# Altium schematic symbol library MCU_ST_STM32H7.SchLib: 225 symbols (part 1 of 9)
Pins are listed as number, name and electrical type; pins without a type are passive.

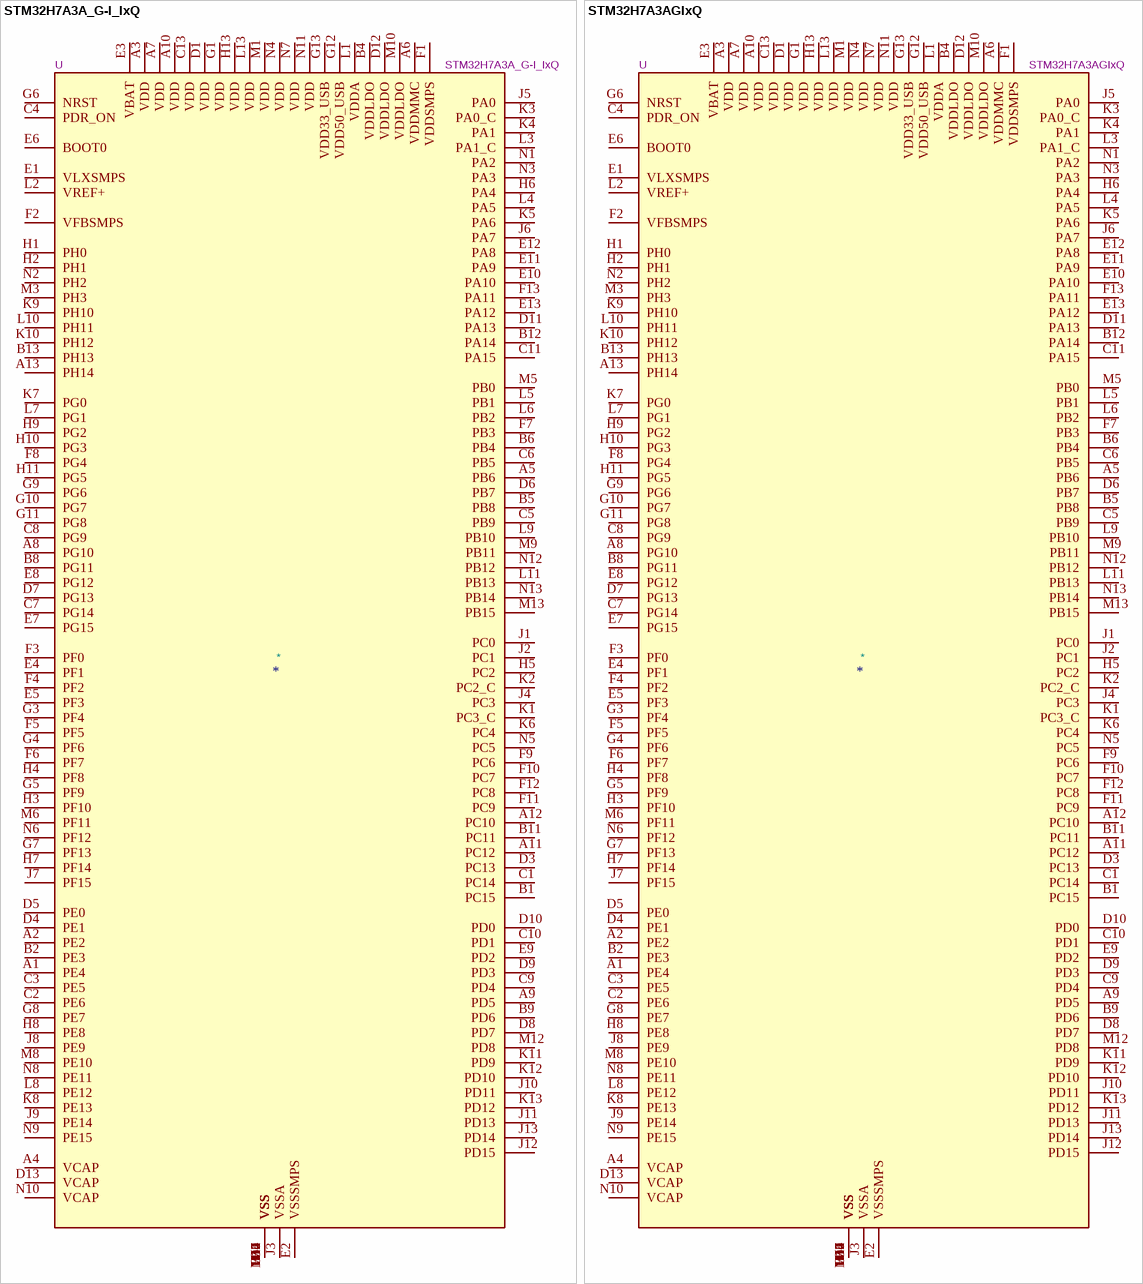
[diagram p0: symbols STM32H7A3A_G-I_IxQ to STM32H7A3AGIxQ]

## STM32H7A3A_G-I_IxQ
designator *  value STM32H7A3A_G-I_IxQ  Reference: U
STMicroelectronics Arm Cortex-M7 MCU, 1024-2048KB flash, 1184KB RAM, 280 MHz, 1.62-3.6V, 125 GPIO, UFBGA169; ki_keywords: Arm Cortex-M7 STM32H7 STM32H7A3/7B3; ki_fp_filters: UFBGA*7x7mm*Layout13x13*P0.5mm*; Footprint: Package_BGA:UFBGA-169_7x7mm_Layout13x13_P0.5mm; Datasheet: https://www.st.com/resource/en/datasheet/stm32h7a3ag.pdf; Description_: STMicroelectronics Arm Cortex-M7 MCU, 1024-2048KB flash, 1184KB RAM, 280 MHz, 1.62-3.6V, 125 GPIO, UFBGA169
pins: A1 PE4, A2 PE2, A3 VDD, A4 VCAP, A5 PB6, A6 VDDMMC, A7 VDD, A8 PG10, A9 PD5, A10 VDD, A11 PC12, A12 PC10, A13 PH14, B1 PC15, B2 PE3, B3 VSS, B4 VDDLDO, B5 PB8, B6 PB4, B7 VSS, B8 PG11, B9 PD6, B10 VSS, B11 PC11, B12 PA14, B13 PH13, C1 PC14, C2 PE6, C3 PE5, C4 PDR_ON, C5 PB9, C6 PB5, C7 PG14, C8 PG9, C9 PD4, C10 PD1, C11 PA15, C12 VSS, C13 VDD, D1 VDD, D2 VSS, D3 PC13, D4 PE1, D5 PE0, D6 PB7, D7 PG13, D8 PD7, D9 PD3, D10 PD0, D11 PA13, D12 VDDLDO, D13 VCAP, E1 VLXSMPS, E2 VSSSMPS, E3 VBAT, E4 PF1, E5 PF3, E6 BOOT0, E7 PG15, E8 PG12, E9 PD2, E10 PA10, E11 PA9, E12 PA8, E13 PA12, F1 VDDSMPS, F2 VFBSMPS, F3 PF0, F4 PF2, F5 PF5, F6 PF7, F7 PB3, F8 PG4, F9 PC6, F10 PC7, F11 PC9, F12 PC8, F13 PA11, G1 VDD, G2 VSS, G3 PF4, G4 PF6, G5 PF9, G6 NRST, G7 PF13, G8 PE7, G9 PG6, G10 PG7, G11 PG8, G12 VDD50_USB, G13 VDD33_USB, H1 PH0, H2 PH1, H3 PF10, H4 PF8, H5 PC2, H6 PA4, H7 PF14, H8 PE8, H9 PG2, H10 PG3, H11 PG5, H12 VSS, H13 VDD, J1 PC0, J2 PC1, J3 VSSA, J4 PC3, J5 PA0, J6 PA7, J7 PF15, J8 PE9, J9 PE14, J10 PD11, J11 PD13, J12 PD15, J13 PD14, K1 PC3_C, K2 PC2_C, K3 PA0_C, K4 PA1, K5 PA6, K6 PC4, K7 PG0, K8 PE13, K9 PH10, K10 PH12, K11 PD9, K12 PD10, K13 PD12, L1 VDDA, L2 VREF+, L3 PA1_C, L4 PA5, L5 PB1, L6 PB2, L7 PG1, L8 PE12, L9 PB10, L10 PH11, L11 PB13, L12 VSS, L13 VDD, M1 VDD, M2 VSS, M3 PH3, M4 VSS, M5 PB0, M6 PF11, M7 VSS, M8 PE10, M9 PB11, M10 VDDLDO, M11 VSS, M12 PD8, M13 PB15, N1 PA2, N2 PH2, N3 PA3, N4 VDD, N5 PC5, N6 PF12, N7 VDD, N8 PE11, N9 PE15, N10 VCAP, N11 VDD, N12 PB12, N13 PB14

## STM32H7A3AGIxQ
designator *  value STM32H7A3AGIxQ  Reference: U
STMicroelectronics Arm Cortex-M7 MCU, 1024KB flash, 1184KB RAM, 280 MHz, 1.62-3.6V, 125 GPIO, UFBGA169; ki_keywords: Arm Cortex-M7 STM32H7 STM32H7A3/7B3; ki_fp_filters: UFBGA*7x7mm*Layout13x13*P0.5mm*; Footprint: Package_BGA:UFBGA-169_7x7mm_Layout13x13_P0.5mm; Datasheet: https://www.st.com/resource/en/datasheet/stm32h7a3ag.pdf; Description_: STMicroelectronics Arm Cortex-M7 MCU, 1024KB flash, 1184KB RAM, 280 MHz, 1.62-3.6V, 125 GPIO, UFBGA169
pins: A1 PE4, A2 PE2, A3 VDD, A4 VCAP, A5 PB6, A6 VDDMMC, A7 VDD, A8 PG10, A9 PD5, A10 VDD, A11 PC12, A12 PC10, A13 PH14, B1 PC15, B2 PE3, B3 VSS, B4 VDDLDO, B5 PB8, B6 PB4, B7 VSS, B8 PG11, B9 PD6, B10 VSS, B11 PC11, B12 PA14, B13 PH13, C1 PC14, C2 PE6, C3 PE5, C4 PDR_ON, C5 PB9, C6 PB5, C7 PG14, C8 PG9, C9 PD4, C10 PD1, C11 PA15, C12 VSS, C13 VDD, D1 VDD, D2 VSS, D3 PC13, D4 PE1, D5 PE0, D6 PB7, D7 PG13, D8 PD7, D9 PD3, D10 PD0, D11 PA13, D12 VDDLDO, D13 VCAP, E1 VLXSMPS, E2 VSSSMPS, E3 VBAT, E4 PF1, E5 PF3, E6 BOOT0, E7 PG15, E8 PG12, E9 PD2, E10 PA10, E11 PA9, E12 PA8, E13 PA12, F1 VDDSMPS, F2 VFBSMPS, F3 PF0, F4 PF2, F5 PF5, F6 PF7, F7 PB3, F8 PG4, F9 PC6, F10 PC7, F11 PC9, F12 PC8, F13 PA11, G1 VDD, G2 VSS, G3 PF4, G4 PF6, G5 PF9, G6 NRST, G7 PF13, G8 PE7, G9 PG6, G10 PG7, G11 PG8, G12 VDD50_USB, G13 VDD33_USB, H1 PH0, H2 PH1, H3 PF10, H4 PF8, H5 PC2, H6 PA4, H7 PF14, H8 PE8, H9 PG2, H10 PG3, H11 PG5, H12 VSS, H13 VDD, J1 PC0, J2 PC1, J3 VSSA, J4 PC3, J5 PA0, J6 PA7, J7 PF15, J8 PE9, J9 PE14, J10 PD11, J11 PD13, J12 PD15, J13 PD14, K1 PC3_C, K2 PC2_C, K3 PA0_C, K4 PA1, K5 PA6, K6 PC4, K7 PG0, K8 PE13, K9 PH10, K10 PH12, K11 PD9, K12 PD10, K13 PD12, L1 VDDA, L2 VREF+, L3 PA1_C, L4 PA5, L5 PB1, L6 PB2, L7 PG1, L8 PE12, L9 PB10, L10 PH11, L11 PB13, L12 VSS, L13 VDD, M1 VDD, M2 VSS, M3 PH3, M4 VSS, M5 PB0, M6 PF11, M7 VSS, M8 PE10, M9 PB11, M10 VDDLDO, M11 VSS, M12 PD8, M13 PB15, N1 PA2, N2 PH2, N3 PA3, N4 VDD, N5 PC5, N6 PF12, N7 VDD, N8 PE11, N9 PE15, N10 VCAP, N11 VDD, N12 PB12, N13 PB14

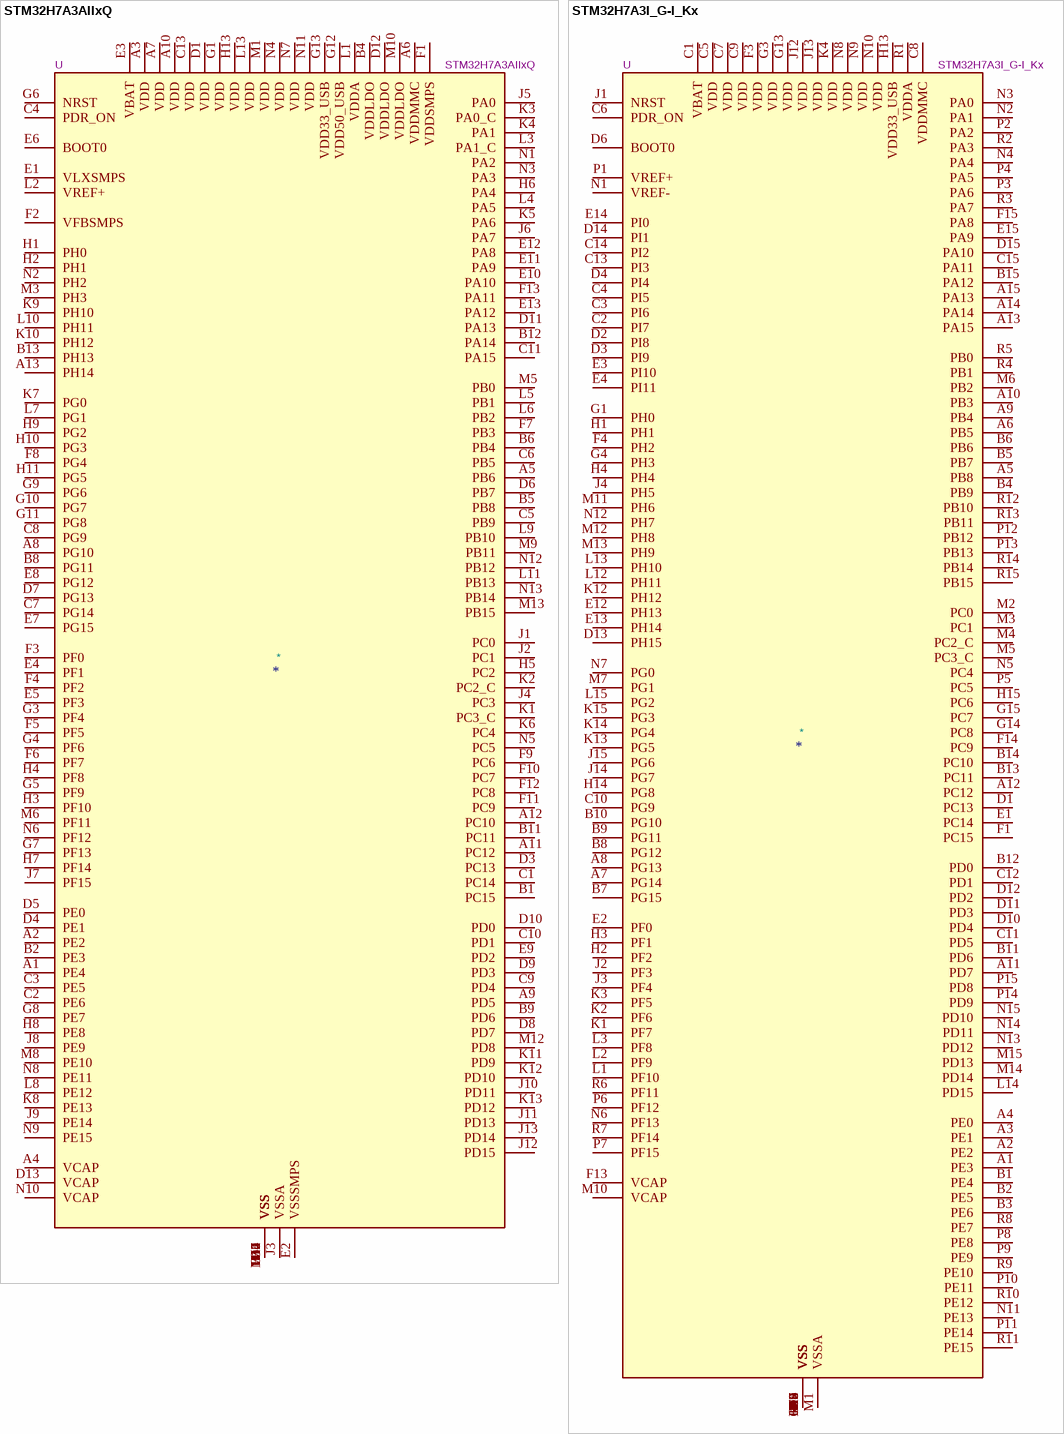
[diagram p1: symbols STM32H7A3AIIxQ to STM32H7A3I_G-I_Kx]

## STM32H7A3AIIxQ
designator *  value STM32H7A3AIIxQ  Reference: U
STMicroelectronics Arm Cortex-M7 MCU, 2048KB flash, 1184KB RAM, 280 MHz, 1.62-3.6V, 125 GPIO, UFBGA169; ki_keywords: Arm Cortex-M7 STM32H7 STM32H7A3/7B3; ki_fp_filters: UFBGA*7x7mm*Layout13x13*P0.5mm*; Footprint: Package_BGA:UFBGA-169_7x7mm_Layout13x13_P0.5mm; Datasheet: https://www.st.com/resource/en/datasheet/stm32h7a3ai.pdf; Description_: STMicroelectronics Arm Cortex-M7 MCU, 2048KB flash, 1184KB RAM, 280 MHz, 1.62-3.6V, 125 GPIO, UFBGA169
pins: A1 PE4, A2 PE2, A3 VDD, A4 VCAP, A5 PB6, A6 VDDMMC, A7 VDD, A8 PG10, A9 PD5, A10 VDD, A11 PC12, A12 PC10, A13 PH14, B1 PC15, B2 PE3, B3 VSS, B4 VDDLDO, B5 PB8, B6 PB4, B7 VSS, B8 PG11, B9 PD6, B10 VSS, B11 PC11, B12 PA14, B13 PH13, C1 PC14, C2 PE6, C3 PE5, C4 PDR_ON, C5 PB9, C6 PB5, C7 PG14, C8 PG9, C9 PD4, C10 PD1, C11 PA15, C12 VSS, C13 VDD, D1 VDD, D2 VSS, D3 PC13, D4 PE1, D5 PE0, D6 PB7, D7 PG13, D8 PD7, D9 PD3, D10 PD0, D11 PA13, D12 VDDLDO, D13 VCAP, E1 VLXSMPS, E2 VSSSMPS, E3 VBAT, E4 PF1, E5 PF3, E6 BOOT0, E7 PG15, E8 PG12, E9 PD2, E10 PA10, E11 PA9, E12 PA8, E13 PA12, F1 VDDSMPS, F2 VFBSMPS, F3 PF0, F4 PF2, F5 PF5, F6 PF7, F7 PB3, F8 PG4, F9 PC6, F10 PC7, F11 PC9, F12 PC8, F13 PA11, G1 VDD, G2 VSS, G3 PF4, G4 PF6, G5 PF9, G6 NRST, G7 PF13, G8 PE7, G9 PG6, G10 PG7, G11 PG8, G12 VDD50_USB, G13 VDD33_USB, H1 PH0, H2 PH1, H3 PF10, H4 PF8, H5 PC2, H6 PA4, H7 PF14, H8 PE8, H9 PG2, H10 PG3, H11 PG5, H12 VSS, H13 VDD, J1 PC0, J2 PC1, J3 VSSA, J4 PC3, J5 PA0, J6 PA7, J7 PF15, J8 PE9, J9 PE14, J10 PD11, J11 PD13, J12 PD15, J13 PD14, K1 PC3_C, K2 PC2_C, K3 PA0_C, K4 PA1, K5 PA6, K6 PC4, K7 PG0, K8 PE13, K9 PH10, K10 PH12, K11 PD9, K12 PD10, K13 PD12, L1 VDDA, L2 VREF+, L3 PA1_C, L4 PA5, L5 PB1, L6 PB2, L7 PG1, L8 PE12, L9 PB10, L10 PH11, L11 PB13, L12 VSS, L13 VDD, M1 VDD, M2 VSS, M3 PH3, M4 VSS, M5 PB0, M6 PF11, M7 VSS, M8 PE10, M9 PB11, M10 VDDLDO, M11 VSS, M12 PD8, M13 PB15, N1 PA2, N2 PH2, N3 PA3, N4 VDD, N5 PC5, N6 PF12, N7 VDD, N8 PE11, N9 PE15, N10 VCAP, N11 VDD, N12 PB12, N13 PB14

## STM32H7A3I_G-I_Kx
designator *  value STM32H7A3I_G-I_Kx  Reference: U
STMicroelectronics Arm Cortex-M7 MCU, 1024-2048KB flash, 1184KB RAM, 280 MHz, 1.62-3.6V, 140 GPIO, UFBGA176; ki_keywords: Arm Cortex-M7 STM32H7 STM32H7A3/7B3; ki_fp_filters: UFBGA*10x10mm*Layout15x15*P0.65mm*; Footprint: Package_BGA:UFBGA-201_10x10mm_Layout15x15_P0.65mm; Datasheet: https://www.st.com/resource/en/datasheet/stm32h7a3ig.pdf; Description_: STMicroelectronics Arm Cortex-M7 MCU, 1024-2048KB flash, 1184KB RAM, 280 MHz, 1.62-3.6V, 140 GPIO, UFBGA176
pins: A1 PE3, A2 PE2, A3 PE1, A4 PE0, A5 PB8, A6 PB5, A7 PG14, A8 PG13, A9 PB4, A10 PB3, A11 PD7, A12 PC12, A13 PA15, A14 PA14, A15 PA13, B1 PE4, B2 PE5, B3 PE6, B4 PB9, B5 PB7, B6 PB6, B7 PG15, B8 PG12, B9 PG11, B10 PG10, B11 PD6, B12 PD0, B13 PC11, B14 PC10, B15 PA12, C1 VBAT, C2 PI7, C3 PI6, C4 PI5, C5 VDD, C6 PDR_ON, C7 VDD, C8 VDDMMC, C9 VDD, C10 PG9, C11 PD5, C12 PD1, C13 PI3, C14 PI2, C15 PA11, D1 PC13, D2 PI8, D3 PI9, D4 PI4, D5 VSS, D6 BOOT0, D7 VSS, D8 VSS, D9 VSS, D10 PD4, D11 PD3, D12 PD2, D13 PH15, D14 PI1, D15 PA10, E1 PC14, E2 PF0, E3 PI10, E4 PI11, E12 PH13, E13 PH14, E14 PI0, E15 PA9, F1 PC15, F2 VSS, F3 VDD, F4 PH2, F6 VSS, F7 VSS, F8 VSS, F9 VSS, F10 VSS, F12 VSS, F13 VCAP, F14 PC9, F15 PA8, G1 PH0, G2 VSS, G3 VDD, G4 PH3, G6 VSS, G7 VSS, G8 VSS, G9 VSS, G10 VSS, G12 VSS, G13 VDD, G14 PC8, G15 PC7, H1 PH1, H2 PF2, H3 PF1, H4 PH4, H6 VSS, H7 VSS, H8 VSS, H9 VSS, H10 VSS, H12 VSS, H13 VDD33_USB, H14 PG8, H15 PC6, J1 NRST, J2 PF3, J3 PF4, J4 PH5, J6 VSS, J7 VSS, J8 VSS, J9 VSS, J10 VSS, J12 VDD, J13 VDD, J14 PG7, J15 PG6, K1 PF7, K2 PF6, K3 PF5, K4 VDD, K6 VSS, K7 VSS, K8 VSS, K9 VSS, K10 VSS, K12 PH12, K13 PG5, K14 PG4, K15 PG3, L1 PF10, L2 PF9, L3 PF8, L4 VSS, L12 PH11, L13 PH10, L14 PD15, L15 PG2, M1 VSSA, M2 PC0, M3 PC1, M4 PC2_C, M5 PC3_C, M6 PB2, M7 PG1, M8 VSS, M9 VSS, M10 VCAP, M11 PH6, M12 PH8, M13 PH9, M14 PD14, M15 PD13, N1 VREF-, N2 PA1, N3 PA0, N4 PA4, N5 PC4, N6 PF13, N7 PG0, N8 VDD, N9 VDD, N10 VDD, N11 PE13, N12 PH7, N13 PD12, N14 PD11, N15 PD10, P1 VREF+, P2 PA2, P3 PA6, P4 PA5, P5 PC5, P6 PF12, P7 PF15, P8 PE8, P9 PE9, P10 PE11, P11 PE14, P12 PB12, P13 PB13, P14 PD9, P15 PD8, R1 VDDA, R2 PA3, R3 PA7, R4 PB1, R5 PB0, R6 PF11, R7 PF14, R8 PE7, R9 PE10, R10 PE12, R11 PE15, R12 PB10, R13 PB11, R14 PB14, R15 PB15

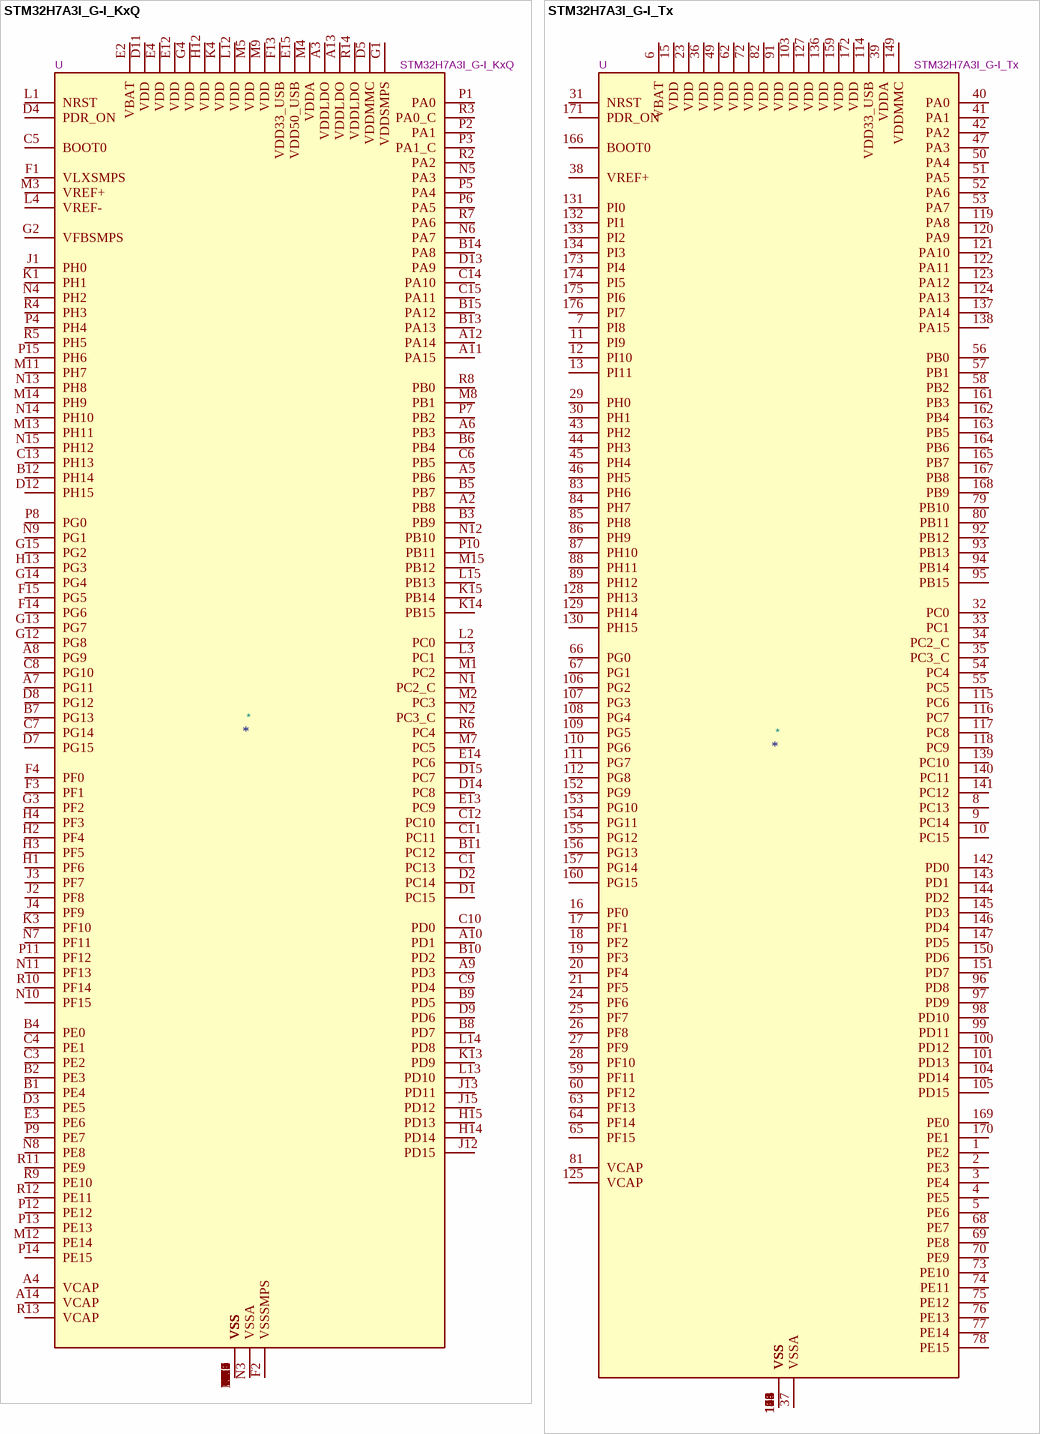
[diagram p2: symbols STM32H7A3I_G-I_KxQ to STM32H7A3I_G-I_Tx]

## STM32H7A3I_G-I_KxQ
designator *  value STM32H7A3I_G-I_KxQ  Reference: U
STMicroelectronics Arm Cortex-M7 MCU, 1024-2048KB flash, 1184KB RAM, 280 MHz, 1.62-3.6V, 132 GPIO, UFBGA176; ki_keywords: Arm Cortex-M7 STM32H7 STM32H7A3/7B3; ki_fp_filters: UFBGA*10x10mm*Layout15x15*P0.65mm*; Footprint: Package_BGA:UFBGA-201_10x10mm_Layout15x15_P0.65mm; Datasheet: https://www.st.com/resource/en/datasheet/stm32h7a3ig.pdf; Description_: STMicroelectronics Arm Cortex-M7 MCU, 1024-2048KB flash, 1184KB RAM, 280 MHz, 1.62-3.6V, 132 GPIO, UFBGA176
pins: A1 VSS, A2 PB8, A3 VDDLDO, A4 VCAP, A5 PB6, A6 PB3, A7 PG11, A8 PG9, A9 PD3, A10 PD1, A11 PA15, A12 PA14, A13 VDDLDO, A14 VCAP, A15 VSS, B1 PE4, B2 PE3, B3 PB9, B4 PE0, B5 PB7, B6 PB4, B7 PG13, B8 PD7, B9 PD5, B10 PD2, B11 PC12, B12 PH14, B13 PA13, B14 PA8, B15 PA12, C1 PC13, C2 VSS, C3 PE2, C4 PE1, C5 BOOT0, C6 PB5, C7 PG14, C8 PG10, C9 PD4, C10 PD0, C11 PC11, C12 PC10, C13 PH13, C14 PA10, C15 PA11, D1 PC15, D2 PC14, D3 PE5, D4 PDR_ON, D5 VDDMMC, D6 VSS, D7 PG15, D8 PG12, D9 PD6, D10 VSS, D11 VDD, D12 PH15, D13 PA9, D14 PC8, D15 PC7, E1 VSS, E2 VBAT, E3 PE6, E4 VDD, E12 VDD, E13 PC9, E14 PC6, E15 VDD50_USB, F1 VLXSMPS, F2 VSSSMPS, F3 PF1, F4 PF0, F6 VSS, F7 VSS, F8 VSS, F9 VSS, F10 VSS, F12 VSS, F13 VDD33_USB, F14 PG6, F15 PG5, G1 VDDSMPS, G2 VFBSMPS, G3 PF2, G4 VDD, G6 VSS, G7 VSS, G8 VSS, G9 VSS, G10 VSS, G12 PG8, G13 PG7, G14 PG4, G15 PG2, H1 PF6, H2 PF4, H3 PF5, H4 PF3, H6 VSS, H7 VSS, H8 VSS, H9 VSS, H10 VSS, H12 VDD, H13 PG3, H14 PD14, H15 PD13, J1 PH0, J2 PF8, J3 PF7, J4 PF9, J6 VSS, J7 VSS, J8 VSS, J9 VSS, J10 VSS, J12 PD15, J13 PD11, J14 VSS, J15 PD12, K1 PH1, K2 VSS, K3 PF10, K4 VDD, K6 VSS, K7 VSS, K8 VSS, K9 VSS, K10 VSS, K12 VSS, K13 PD9, K14 PB15, K15 PB14, L1 NRST, L2 PC0, L3 PC1, L4 VREF-, L12 VDD, L13 PD10, L14 PD8, L15 PB13, M1 PC2, M2 PC3, M3 VREF+, M4 VDDA, M5 VDD, M6 VSS, M7 PC5, M8 PB1, M9 VDD, M10 VSS, M11 PH7, M12 PE14, M13 PH11, M14 PH9, M15 PB12, N1 PC2_C, N2 PC3_C, N3 VSSA, N4 PH2, N5 PA3, N6 PA7, N7 PF11, N8 PE8, N9 PG1, N10 PF15, N11 PF13, N12 PB10, N13 PH8, N14 PH10, N15 PH12, P1 PA0, P2 PA1, P3 PA1_C, P4 PH4, P5 PA4, P6 PA5, P7 PB2, P8 PG0, P9 PE7, P10 PB11, P11 PF12, P12 PE12, P13 PE13, P14 PE15, P15 PH6, R1 VSS, R2 PA2, R3 PA0_C, R4 PH3, R5 PH5, R6 PC4, R7 PA6, R8 PB0, R9 PE10, R10 PF14, R11 PE9, R12 PE11, R13 VCAP, R14 VDDLDO, R15 VSS

## STM32H7A3I_G-I_Tx
designator *  value STM32H7A3I_G-I_Tx  Reference: U
STMicroelectronics Arm Cortex-M7 MCU, 1024-2048KB flash, 1184KB RAM, 280 MHz, 1.62-3.6V, 140 GPIO, LQFP176; ki_keywords: Arm Cortex-M7 STM32H7 STM32H7A3/7B3; ki_fp_filters: LQFP*24x24mm*P0.5mm*; Footprint: Package_QFP:LQFP-176_24x24mm_P0.5mm; Datasheet: https://www.st.com/resource/en/datasheet/stm32h7a3ig.pdf; Description_: STMicroelectronics Arm Cortex-M7 MCU, 1024-2048KB flash, 1184KB RAM, 280 MHz, 1.62-3.6V, 140 GPIO, LQFP176
pins: 1 PE2, 2 PE3, 3 PE4, 4 PE5, 5 PE6, 6 VBAT, 7 PI8, 8 PC13, 9 PC14, 10 PC15, 11 PI9, 12 PI10, 13 PI11, 14 VSS, 15 VDD, 16 PF0, 17 PF1, 18 PF2, 19 PF3, 20 PF4, 21 PF5, 22 VSS, 23 VDD, 24 PF6, 25 PF7, 26 PF8, 27 PF9, 28 PF10, 29 PH0, 30 PH1, 31 NRST, 32 PC0, 33 PC1, 34 PC2_C, 35 PC3_C, 36 VDD, 37 VSSA, 38 VREF+, 39 VDDA, 40 PA0, 41 PA1, 42 PA2, 43 PH2, 44 PH3, 45 PH4, 46 PH5, 47 PA3, 48 VSS, 49 VDD, 50 PA4, 51 PA5, 52 PA6, 53 PA7, 54 PC4, 55 PC5, 56 PB0, 57 PB1, 58 PB2, 59 PF11, 60 PF12, 61 VSS, 62 VDD, 63 PF13, 64 PF14, 65 PF15, 66 PG0, 67 PG1, 68 PE7, 69 PE8, 70 PE9, 71 VSS, 72 VDD, 73 PE10, 74 PE11, 75 PE12, 76 PE13, 77 PE14, 78 PE15, 79 PB10, 80 PB11, 81 VCAP, 82 VDD, 83 PH6, 84 PH7, 85 PH8, 86 PH9, 87 PH10, 88 PH11, 89 PH12, 90 VSS, 91 VDD, 92 PB12, 93 PB13, 94 PB14, 95 PB15, 96 PD8, 97 PD9, 98 PD10, 99 PD11, 100 PD12, 101 PD13, 102 VSS, 103 VDD, 104 PD14, 105 PD15, 106 PG2, 107 PG3, 108 PG4, 109 PG5, 110 PG6, 111 PG7, 112 PG8, 113 VSS, 114 VDD33_USB, 115 PC6, 116 PC7, 117 PC8, 118 PC9, 119 PA8, 120 PA9, 121 PA10, 122 PA11, 123 PA12, 124 PA13, 125 VCAP, 126 VSS, 127 VDD, 128 PH13, 129 PH14, 130 PH15, 131 PI0, 132 PI1, 133 PI2, 134 PI3, 135 VSS, 136 VDD, 137 PA14, 138 PA15, 139 PC10, 140 PC11, 141 PC12, 142 PD0, 143 PD1, 144 PD2, 145 PD3, 146 PD4, 147 PD5, 148 VSS, 149 VDDMMC, 150 PD6, 151 PD7, 152 PG9, 153 PG10, 154 PG11, 155 PG12, 156 PG13, 157 PG14, 158 VSS, 159 VDD, 160 PG15, 161 PB3, 162 PB4, 163 PB5, 164 PB6, 165 PB7, 166 BOOT0, 167 PB8, 168 PB9, 169 PE0, 170 PE1, 171 PDR_ON, 172 VDD, 173 PI4, 174 PI5, 175 PI6, 176 PI7

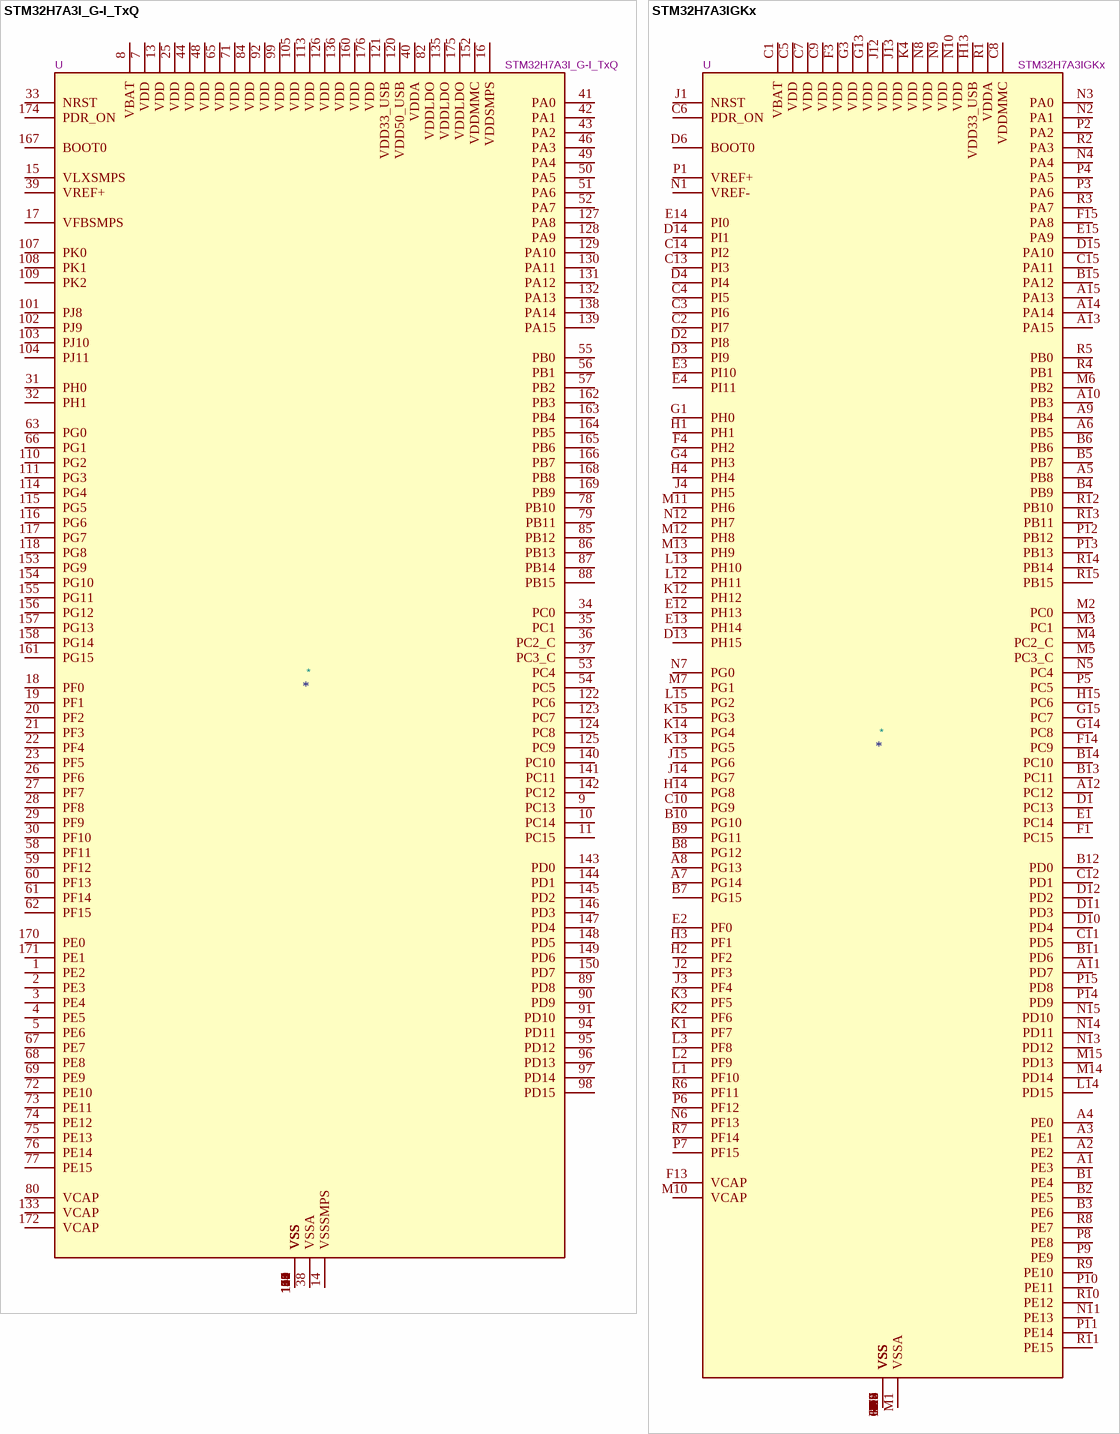
[diagram p3: symbols STM32H7A3I_G-I_TxQ to STM32H7A3IGKx]

## STM32H7A3I_G-I_TxQ
designator *  value STM32H7A3I_G-I_TxQ  Reference: U
STMicroelectronics Arm Cortex-M7 MCU, 1024-2048KB flash, 1184KB RAM, 280 MHz, 1.62-3.6V, 121 GPIO, LQFP176; ki_keywords: Arm Cortex-M7 STM32H7 STM32H7A3/7B3; ki_fp_filters: LQFP*24x24mm*P0.5mm*; Footprint: Package_QFP:LQFP-176_24x24mm_P0.5mm; Datasheet: https://www.st.com/resource/en/datasheet/stm32h7a3ig.pdf; Description_: STMicroelectronics Arm Cortex-M7 MCU, 1024-2048KB flash, 1184KB RAM, 280 MHz, 1.62-3.6V, 121 GPIO, LQFP176
pins: 1 PE2, 2 PE3, 3 PE4, 4 PE5, 5 PE6, 6 VSS, 7 VDD, 8 VBAT, 9 PC13, 10 PC14, 11 PC15, 12 VSS, 13 VDD, 14 VSSSMPS, 15 VLXSMPS, 16 VDDSMPS, 17 VFBSMPS, 18 PF0, 19 PF1, 20 PF2, 21 PF3, 22 PF4, 23 PF5, 24 VSS, 25 VDD, 26 PF6, 27 PF7, 28 PF8, 29 PF9, 30 PF10, 31 PH0, 32 PH1, 33 NRST, 34 PC0, 35 PC1, 36 PC2_C, 37 PC3_C, 38 VSSA, 39 VREF+, 40 VDDA, 41 PA0, 42 PA1, 43 PA2, 44 VDD, 45 VSS, 46 PA3, 47 VSS, 48 VDD, 49 PA4, 50 PA5, 51 PA6, 52 PA7, 53 PC4, 54 PC5, 55 PB0, 56 PB1, 57 PB2, 58 PF11, 59 PF12, 60 PF13, 61 PF14, 62 PF15, 63 PG0, 64 VSS, 65 VDD, 66 PG1, 67 PE7, 68 PE8, 69 PE9, 70 VSS, 71 VDD, 72 PE10, 73 PE11, 74 PE12, 75 PE13, 76 PE14, 77 PE15, 78 PB10, 79 PB11, 80 VCAP, 81 VSS, 82 VDDLDO, 83 VSS, 84 VDD, 85 PB12, 86 PB13, 87 PB14, 88 PB15, 89 PD8, 90 PD9, 91 PD10, 92 VDD, 93 VSS, 94 PD11, 95 PD12, 96 PD13, 97 PD14, 98 PD15, 99 VDD, 100 VSS, 101 PJ8, 102 PJ9, 103 PJ10, 104 PJ11, 105 VDD, 106 VSS, 107 PK0, 108 PK1, 109 PK2, 110 PG2, 111 PG3, 112 VSS, 113 VDD, 114 PG4, 115 PG5, 116 PG6, 117 PG7, 118 PG8, 119 VSS, 120 VDD50_USB, 121 VDD33_USB, 122 PC6, 123 PC7, 124 PC8, 125 PC9, 126 VDD, 127 PA8, 128 PA9, 129 PA10, 130 PA11, 131 PA12, 132 PA13, 133 VCAP, 134 VSS, 135 VDDLDO, 136 VDD, 137 VSS, 138 PA14, 139 PA15, 140 PC10, 141 PC11, 142 PC12, 143 PD0, 144 PD1, 145 PD2, 146 PD3, 147 PD4, 148 PD5, 149 PD6, 150 PD7, 151 VSS, 152 VDDMMC, 153 PG9, 154 PG10, 155 PG11, 156 PG12, 157 PG13, 158 PG14, 159 VSS, 160 VDD, 161 PG15, 162 PB3, 163 PB4, 164 PB5, 165 PB6, 166 PB7, 167 BOOT0, 168 PB8, 169 PB9, 170 PE0, 171 PE1, 172 VCAP, 173 VSS, 174 PDR_ON, 175 VDDLDO, 176 VDD

## STM32H7A3IGKx
designator *  value STM32H7A3IGKx  Reference: U
STMicroelectronics Arm Cortex-M7 MCU, 1024KB flash, 1184KB RAM, 280 MHz, 1.62-3.6V, 140 GPIO, UFBGA176; ki_keywords: Arm Cortex-M7 STM32H7 STM32H7A3/7B3; ki_fp_filters: UFBGA*10x10mm*Layout15x15*P0.65mm*; Footprint: Package_BGA:UFBGA-201_10x10mm_Layout15x15_P0.65mm; Datasheet: https://www.st.com/resource/en/datasheet/stm32h7a3ig.pdf; Description_: STMicroelectronics Arm Cortex-M7 MCU, 1024KB flash, 1184KB RAM, 280 MHz, 1.62-3.6V, 140 GPIO, UFBGA176
pins: A1 PE3, A2 PE2, A3 PE1, A4 PE0, A5 PB8, A6 PB5, A7 PG14, A8 PG13, A9 PB4, A10 PB3, A11 PD7, A12 PC12, A13 PA15, A14 PA14, A15 PA13, B1 PE4, B2 PE5, B3 PE6, B4 PB9, B5 PB7, B6 PB6, B7 PG15, B8 PG12, B9 PG11, B10 PG10, B11 PD6, B12 PD0, B13 PC11, B14 PC10, B15 PA12, C1 VBAT, C2 PI7, C3 PI6, C4 PI5, C5 VDD, C6 PDR_ON, C7 VDD, C8 VDDMMC, C9 VDD, C10 PG9, C11 PD5, C12 PD1, C13 PI3, C14 PI2, C15 PA11, D1 PC13, D2 PI8, D3 PI9, D4 PI4, D5 VSS, D6 BOOT0, D7 VSS, D8 VSS, D9 VSS, D10 PD4, D11 PD3, D12 PD2, D13 PH15, D14 PI1, D15 PA10, E1 PC14, E2 PF0, E3 PI10, E4 PI11, E12 PH13, E13 PH14, E14 PI0, E15 PA9, F1 PC15, F2 VSS, F3 VDD, F4 PH2, F6 VSS, F7 VSS, F8 VSS, F9 VSS, F10 VSS, F12 VSS, F13 VCAP, F14 PC9, F15 PA8, G1 PH0, G2 VSS, G3 VDD, G4 PH3, G6 VSS, G7 VSS, G8 VSS, G9 VSS, G10 VSS, G12 VSS, G13 VDD, G14 PC8, G15 PC7, H1 PH1, H2 PF2, H3 PF1, H4 PH4, H6 VSS, H7 VSS, H8 VSS, H9 VSS, H10 VSS, H12 VSS, H13 VDD33_USB, H14 PG8, H15 PC6, J1 NRST, J2 PF3, J3 PF4, J4 PH5, J6 VSS, J7 VSS, J8 VSS, J9 VSS, J10 VSS, J12 VDD, J13 VDD, J14 PG7, J15 PG6, K1 PF7, K2 PF6, K3 PF5, K4 VDD, K6 VSS, K7 VSS, K8 VSS, K9 VSS, K10 VSS, K12 PH12, K13 PG5, K14 PG4, K15 PG3, L1 PF10, L2 PF9, L3 PF8, L4 VSS, L12 PH11, L13 PH10, L14 PD15, L15 PG2, M1 VSSA, M2 PC0, M3 PC1, M4 PC2_C, M5 PC3_C, M6 PB2, M7 PG1, M8 VSS, M9 VSS, M10 VCAP, M11 PH6, M12 PH8, M13 PH9, M14 PD14, M15 PD13, N1 VREF-, N2 PA1, N3 PA0, N4 PA4, N5 PC4, N6 PF13, N7 PG0, N8 VDD, N9 VDD, N10 VDD, N11 PE13, N12 PH7, N13 PD12, N14 PD11, N15 PD10, P1 VREF+, P2 PA2, P3 PA6, P4 PA5, P5 PC5, P6 PF12, P7 PF15, P8 PE8, P9 PE9, P10 PE11, P11 PE14, P12 PB12, P13 PB13, P14 PD9, P15 PD8, R1 VDDA, R2 PA3, R3 PA7, R4 PB1, R5 PB0, R6 PF11, R7 PF14, R8 PE7, R9 PE10, R10 PE12, R11 PE15, R12 PB10, R13 PB11, R14 PB14, R15 PB15

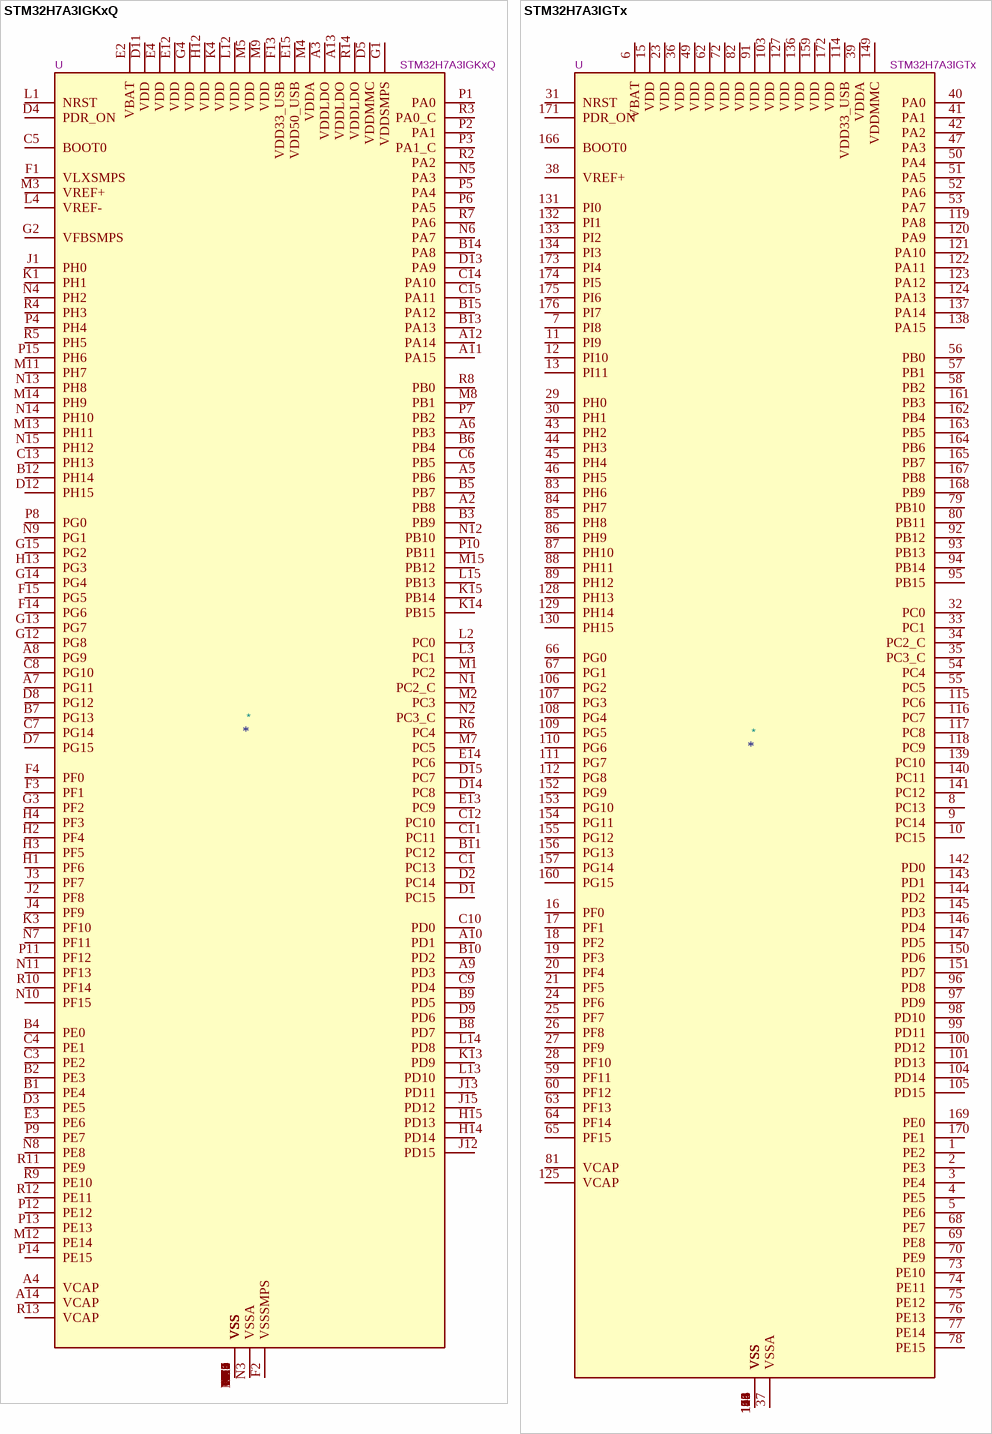
[diagram p4: symbols STM32H7A3IGKxQ to STM32H7A3IGTx]

## STM32H7A3IGKxQ
designator *  value STM32H7A3IGKxQ  Reference: U
STMicroelectronics Arm Cortex-M7 MCU, 1024KB flash, 1184KB RAM, 280 MHz, 1.62-3.6V, 132 GPIO, UFBGA176; ki_keywords: Arm Cortex-M7 STM32H7 STM32H7A3/7B3; ki_fp_filters: UFBGA*10x10mm*Layout15x15*P0.65mm*; Footprint: Package_BGA:UFBGA-201_10x10mm_Layout15x15_P0.65mm; Datasheet: https://www.st.com/resource/en/datasheet/stm32h7a3ig.pdf; Description_: STMicroelectronics Arm Cortex-M7 MCU, 1024KB flash, 1184KB RAM, 280 MHz, 1.62-3.6V, 132 GPIO, UFBGA176
pins: A1 VSS, A2 PB8, A3 VDDLDO, A4 VCAP, A5 PB6, A6 PB3, A7 PG11, A8 PG9, A9 PD3, A10 PD1, A11 PA15, A12 PA14, A13 VDDLDO, A14 VCAP, A15 VSS, B1 PE4, B2 PE3, B3 PB9, B4 PE0, B5 PB7, B6 PB4, B7 PG13, B8 PD7, B9 PD5, B10 PD2, B11 PC12, B12 PH14, B13 PA13, B14 PA8, B15 PA12, C1 PC13, C2 VSS, C3 PE2, C4 PE1, C5 BOOT0, C6 PB5, C7 PG14, C8 PG10, C9 PD4, C10 PD0, C11 PC11, C12 PC10, C13 PH13, C14 PA10, C15 PA11, D1 PC15, D2 PC14, D3 PE5, D4 PDR_ON, D5 VDDMMC, D6 VSS, D7 PG15, D8 PG12, D9 PD6, D10 VSS, D11 VDD, D12 PH15, D13 PA9, D14 PC8, D15 PC7, E1 VSS, E2 VBAT, E3 PE6, E4 VDD, E12 VDD, E13 PC9, E14 PC6, E15 VDD50_USB, F1 VLXSMPS, F2 VSSSMPS, F3 PF1, F4 PF0, F6 VSS, F7 VSS, F8 VSS, F9 VSS, F10 VSS, F12 VSS, F13 VDD33_USB, F14 PG6, F15 PG5, G1 VDDSMPS, G2 VFBSMPS, G3 PF2, G4 VDD, G6 VSS, G7 VSS, G8 VSS, G9 VSS, G10 VSS, G12 PG8, G13 PG7, G14 PG4, G15 PG2, H1 PF6, H2 PF4, H3 PF5, H4 PF3, H6 VSS, H7 VSS, H8 VSS, H9 VSS, H10 VSS, H12 VDD, H13 PG3, H14 PD14, H15 PD13, J1 PH0, J2 PF8, J3 PF7, J4 PF9, J6 VSS, J7 VSS, J8 VSS, J9 VSS, J10 VSS, J12 PD15, J13 PD11, J14 VSS, J15 PD12, K1 PH1, K2 VSS, K3 PF10, K4 VDD, K6 VSS, K7 VSS, K8 VSS, K9 VSS, K10 VSS, K12 VSS, K13 PD9, K14 PB15, K15 PB14, L1 NRST, L2 PC0, L3 PC1, L4 VREF-, L12 VDD, L13 PD10, L14 PD8, L15 PB13, M1 PC2, M2 PC3, M3 VREF+, M4 VDDA, M5 VDD, M6 VSS, M7 PC5, M8 PB1, M9 VDD, M10 VSS, M11 PH7, M12 PE14, M13 PH11, M14 PH9, M15 PB12, N1 PC2_C, N2 PC3_C, N3 VSSA, N4 PH2, N5 PA3, N6 PA7, N7 PF11, N8 PE8, N9 PG1, N10 PF15, N11 PF13, N12 PB10, N13 PH8, N14 PH10, N15 PH12, P1 PA0, P2 PA1, P3 PA1_C, P4 PH4, P5 PA4, P6 PA5, P7 PB2, P8 PG0, P9 PE7, P10 PB11, P11 PF12, P12 PE12, P13 PE13, P14 PE15, P15 PH6, R1 VSS, R2 PA2, R3 PA0_C, R4 PH3, R5 PH5, R6 PC4, R7 PA6, R8 PB0, R9 PE10, R10 PF14, R11 PE9, R12 PE11, R13 VCAP, R14 VDDLDO, R15 VSS

## STM32H7A3IGTx
designator *  value STM32H7A3IGTx  Reference: U
STMicroelectronics Arm Cortex-M7 MCU, 1024KB flash, 1184KB RAM, 280 MHz, 1.62-3.6V, 140 GPIO, LQFP176; ki_keywords: Arm Cortex-M7 STM32H7 STM32H7A3/7B3; ki_fp_filters: LQFP*24x24mm*P0.5mm*; Footprint: Package_QFP:LQFP-176_24x24mm_P0.5mm; Datasheet: https://www.st.com/resource/en/datasheet/stm32h7a3ig.pdf; Description_: STMicroelectronics Arm Cortex-M7 MCU, 1024KB flash, 1184KB RAM, 280 MHz, 1.62-3.6V, 140 GPIO, LQFP176
pins: 1 PE2, 2 PE3, 3 PE4, 4 PE5, 5 PE6, 6 VBAT, 7 PI8, 8 PC13, 9 PC14, 10 PC15, 11 PI9, 12 PI10, 13 PI11, 14 VSS, 15 VDD, 16 PF0, 17 PF1, 18 PF2, 19 PF3, 20 PF4, 21 PF5, 22 VSS, 23 VDD, 24 PF6, 25 PF7, 26 PF8, 27 PF9, 28 PF10, 29 PH0, 30 PH1, 31 NRST, 32 PC0, 33 PC1, 34 PC2_C, 35 PC3_C, 36 VDD, 37 VSSA, 38 VREF+, 39 VDDA, 40 PA0, 41 PA1, 42 PA2, 43 PH2, 44 PH3, 45 PH4, 46 PH5, 47 PA3, 48 VSS, 49 VDD, 50 PA4, 51 PA5, 52 PA6, 53 PA7, 54 PC4, 55 PC5, 56 PB0, 57 PB1, 58 PB2, 59 PF11, 60 PF12, 61 VSS, 62 VDD, 63 PF13, 64 PF14, 65 PF15, 66 PG0, 67 PG1, 68 PE7, 69 PE8, 70 PE9, 71 VSS, 72 VDD, 73 PE10, 74 PE11, 75 PE12, 76 PE13, 77 PE14, 78 PE15, 79 PB10, 80 PB11, 81 VCAP, 82 VDD, 83 PH6, 84 PH7, 85 PH8, 86 PH9, 87 PH10, 88 PH11, 89 PH12, 90 VSS, 91 VDD, 92 PB12, 93 PB13, 94 PB14, 95 PB15, 96 PD8, 97 PD9, 98 PD10, 99 PD11, 100 PD12, 101 PD13, 102 VSS, 103 VDD, 104 PD14, 105 PD15, 106 PG2, 107 PG3, 108 PG4, 109 PG5, 110 PG6, 111 PG7, 112 PG8, 113 VSS, 114 VDD33_USB, 115 PC6, 116 PC7, 117 PC8, 118 PC9, 119 PA8, 120 PA9, 121 PA10, 122 PA11, 123 PA12, 124 PA13, 125 VCAP, 126 VSS, 127 VDD, 128 PH13, 129 PH14, 130 PH15, 131 PI0, 132 PI1, 133 PI2, 134 PI3, 135 VSS, 136 VDD, 137 PA14, 138 PA15, 139 PC10, 140 PC11, 141 PC12, 142 PD0, 143 PD1, 144 PD2, 145 PD3, 146 PD4, 147 PD5, 148 VSS, 149 VDDMMC, 150 PD6, 151 PD7, 152 PG9, 153 PG10, 154 PG11, 155 PG12, 156 PG13, 157 PG14, 158 VSS, 159 VDD, 160 PG15, 161 PB3, 162 PB4, 163 PB5, 164 PB6, 165 PB7, 166 BOOT0, 167 PB8, 168 PB9, 169 PE0, 170 PE1, 171 PDR_ON, 172 VDD, 173 PI4, 174 PI5, 175 PI6, 176 PI7

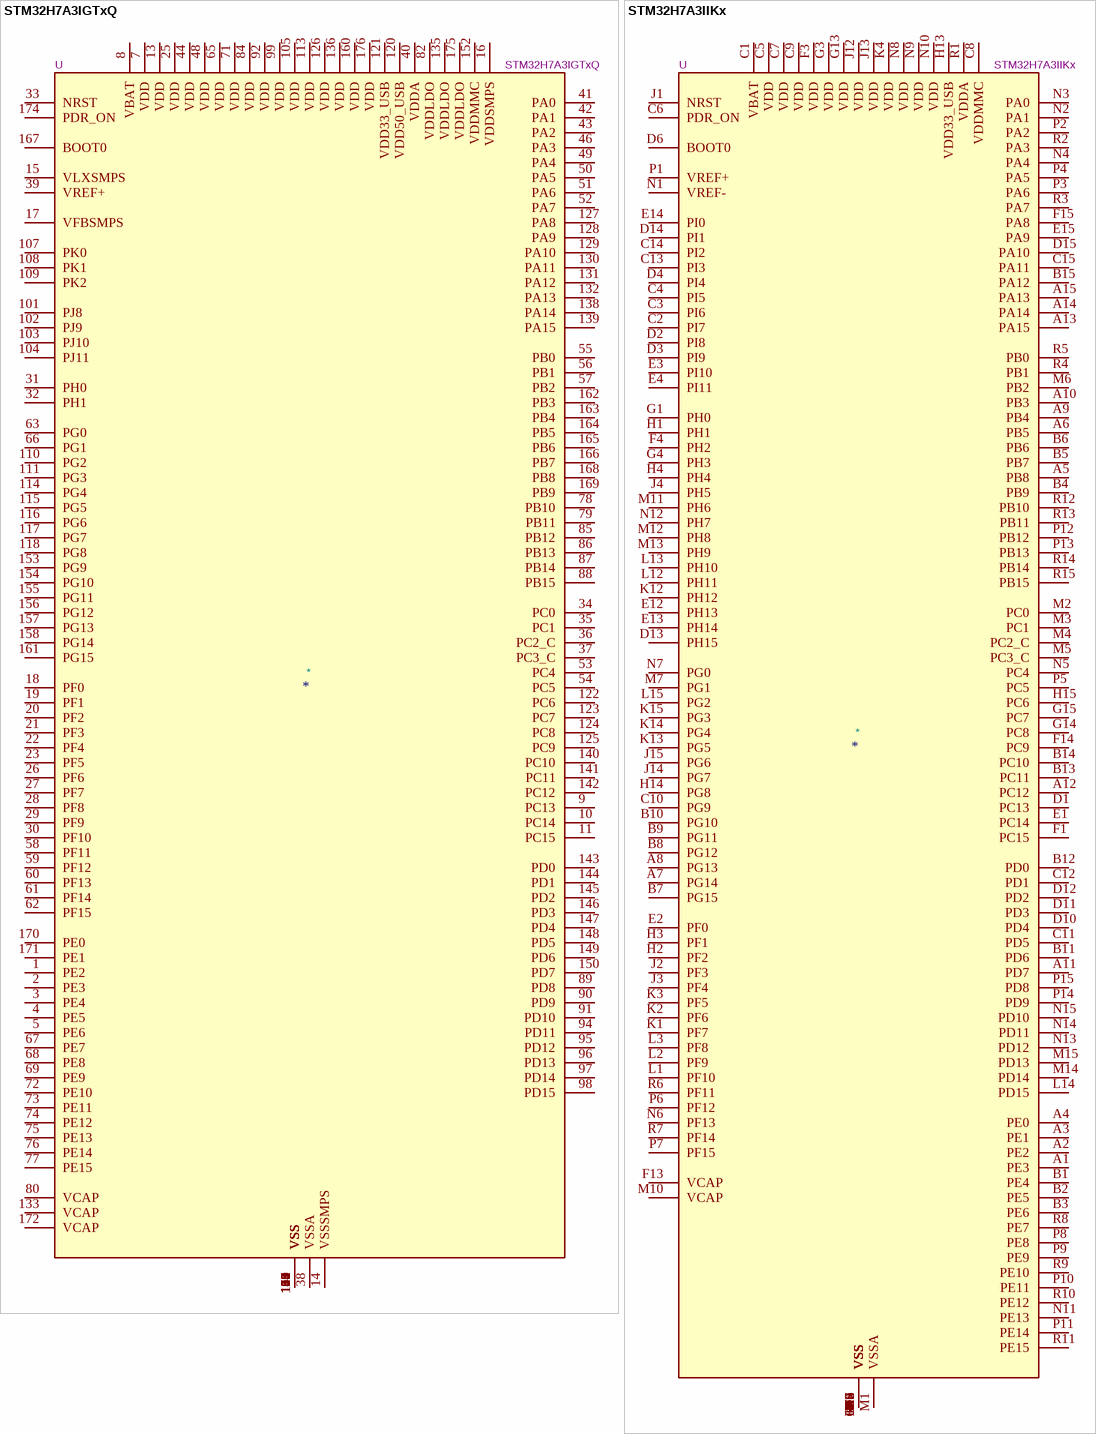
[diagram p5: symbols STM32H7A3IGTxQ to STM32H7A3IIKx]

## STM32H7A3IGTxQ
designator *  value STM32H7A3IGTxQ  Reference: U
STMicroelectronics Arm Cortex-M7 MCU, 1024KB flash, 1184KB RAM, 280 MHz, 1.62-3.6V, 121 GPIO, LQFP176; ki_keywords: Arm Cortex-M7 STM32H7 STM32H7A3/7B3; ki_fp_filters: LQFP*24x24mm*P0.5mm*; Footprint: Package_QFP:LQFP-176_24x24mm_P0.5mm; Datasheet: https://www.st.com/resource/en/datasheet/stm32h7a3ig.pdf; Description_: STMicroelectronics Arm Cortex-M7 MCU, 1024KB flash, 1184KB RAM, 280 MHz, 1.62-3.6V, 121 GPIO, LQFP176
pins: 1 PE2, 2 PE3, 3 PE4, 4 PE5, 5 PE6, 6 VSS, 7 VDD, 8 VBAT, 9 PC13, 10 PC14, 11 PC15, 12 VSS, 13 VDD, 14 VSSSMPS, 15 VLXSMPS, 16 VDDSMPS, 17 VFBSMPS, 18 PF0, 19 PF1, 20 PF2, 21 PF3, 22 PF4, 23 PF5, 24 VSS, 25 VDD, 26 PF6, 27 PF7, 28 PF8, 29 PF9, 30 PF10, 31 PH0, 32 PH1, 33 NRST, 34 PC0, 35 PC1, 36 PC2_C, 37 PC3_C, 38 VSSA, 39 VREF+, 40 VDDA, 41 PA0, 42 PA1, 43 PA2, 44 VDD, 45 VSS, 46 PA3, 47 VSS, 48 VDD, 49 PA4, 50 PA5, 51 PA6, 52 PA7, 53 PC4, 54 PC5, 55 PB0, 56 PB1, 57 PB2, 58 PF11, 59 PF12, 60 PF13, 61 PF14, 62 PF15, 63 PG0, 64 VSS, 65 VDD, 66 PG1, 67 PE7, 68 PE8, 69 PE9, 70 VSS, 71 VDD, 72 PE10, 73 PE11, 74 PE12, 75 PE13, 76 PE14, 77 PE15, 78 PB10, 79 PB11, 80 VCAP, 81 VSS, 82 VDDLDO, 83 VSS, 84 VDD, 85 PB12, 86 PB13, 87 PB14, 88 PB15, 89 PD8, 90 PD9, 91 PD10, 92 VDD, 93 VSS, 94 PD11, 95 PD12, 96 PD13, 97 PD14, 98 PD15, 99 VDD, 100 VSS, 101 PJ8, 102 PJ9, 103 PJ10, 104 PJ11, 105 VDD, 106 VSS, 107 PK0, 108 PK1, 109 PK2, 110 PG2, 111 PG3, 112 VSS, 113 VDD, 114 PG4, 115 PG5, 116 PG6, 117 PG7, 118 PG8, 119 VSS, 120 VDD50_USB, 121 VDD33_USB, 122 PC6, 123 PC7, 124 PC8, 125 PC9, 126 VDD, 127 PA8, 128 PA9, 129 PA10, 130 PA11, 131 PA12, 132 PA13, 133 VCAP, 134 VSS, 135 VDDLDO, 136 VDD, 137 VSS, 138 PA14, 139 PA15, 140 PC10, 141 PC11, 142 PC12, 143 PD0, 144 PD1, 145 PD2, 146 PD3, 147 PD4, 148 PD5, 149 PD6, 150 PD7, 151 VSS, 152 VDDMMC, 153 PG9, 154 PG10, 155 PG11, 156 PG12, 157 PG13, 158 PG14, 159 VSS, 160 VDD, 161 PG15, 162 PB3, 163 PB4, 164 PB5, 165 PB6, 166 PB7, 167 BOOT0, 168 PB8, 169 PB9, 170 PE0, 171 PE1, 172 VCAP, 173 VSS, 174 PDR_ON, 175 VDDLDO, 176 VDD

## STM32H7A3IIKx
designator *  value STM32H7A3IIKx  Reference: U
STMicroelectronics Arm Cortex-M7 MCU, 2048KB flash, 1184KB RAM, 280 MHz, 1.62-3.6V, 140 GPIO, UFBGA176; ki_keywords: Arm Cortex-M7 STM32H7 STM32H7A3/7B3; ki_fp_filters: UFBGA*10x10mm*Layout15x15*P0.65mm*; Footprint: Package_BGA:UFBGA-201_10x10mm_Layout15x15_P0.65mm; Datasheet: https://www.st.com/resource/en/datasheet/stm32h7a3ii.pdf; Description_: STMicroelectronics Arm Cortex-M7 MCU, 2048KB flash, 1184KB RAM, 280 MHz, 1.62-3.6V, 140 GPIO, UFBGA176
pins: A1 PE3, A2 PE2, A3 PE1, A4 PE0, A5 PB8, A6 PB5, A7 PG14, A8 PG13, A9 PB4, A10 PB3, A11 PD7, A12 PC12, A13 PA15, A14 PA14, A15 PA13, B1 PE4, B2 PE5, B3 PE6, B4 PB9, B5 PB7, B6 PB6, B7 PG15, B8 PG12, B9 PG11, B10 PG10, B11 PD6, B12 PD0, B13 PC11, B14 PC10, B15 PA12, C1 VBAT, C2 PI7, C3 PI6, C4 PI5, C5 VDD, C6 PDR_ON, C7 VDD, C8 VDDMMC, C9 VDD, C10 PG9, C11 PD5, C12 PD1, C13 PI3, C14 PI2, C15 PA11, D1 PC13, D2 PI8, D3 PI9, D4 PI4, D5 VSS, D6 BOOT0, D7 VSS, D8 VSS, D9 VSS, D10 PD4, D11 PD3, D12 PD2, D13 PH15, D14 PI1, D15 PA10, E1 PC14, E2 PF0, E3 PI10, E4 PI11, E12 PH13, E13 PH14, E14 PI0, E15 PA9, F1 PC15, F2 VSS, F3 VDD, F4 PH2, F6 VSS, F7 VSS, F8 VSS, F9 VSS, F10 VSS, F12 VSS, F13 VCAP, F14 PC9, F15 PA8, G1 PH0, G2 VSS, G3 VDD, G4 PH3, G6 VSS, G7 VSS, G8 VSS, G9 VSS, G10 VSS, G12 VSS, G13 VDD, G14 PC8, G15 PC7, H1 PH1, H2 PF2, H3 PF1, H4 PH4, H6 VSS, H7 VSS, H8 VSS, H9 VSS, H10 VSS, H12 VSS, H13 VDD33_USB, H14 PG8, H15 PC6, J1 NRST, J2 PF3, J3 PF4, J4 PH5, J6 VSS, J7 VSS, J8 VSS, J9 VSS, J10 VSS, J12 VDD, J13 VDD, J14 PG7, J15 PG6, K1 PF7, K2 PF6, K3 PF5, K4 VDD, K6 VSS, K7 VSS, K8 VSS, K9 VSS, K10 VSS, K12 PH12, K13 PG5, K14 PG4, K15 PG3, L1 PF10, L2 PF9, L3 PF8, L4 VSS, L12 PH11, L13 PH10, L14 PD15, L15 PG2, M1 VSSA, M2 PC0, M3 PC1, M4 PC2_C, M5 PC3_C, M6 PB2, M7 PG1, M8 VSS, M9 VSS, M10 VCAP, M11 PH6, M12 PH8, M13 PH9, M14 PD14, M15 PD13, N1 VREF-, N2 PA1, N3 PA0, N4 PA4, N5 PC4, N6 PF13, N7 PG0, N8 VDD, N9 VDD, N10 VDD, N11 PE13, N12 PH7, N13 PD12, N14 PD11, N15 PD10, P1 VREF+, P2 PA2, P3 PA6, P4 PA5, P5 PC5, P6 PF12, P7 PF15, P8 PE8, P9 PE9, P10 PE11, P11 PE14, P12 PB12, P13 PB13, P14 PD9, P15 PD8, R1 VDDA, R2 PA3, R3 PA7, R4 PB1, R5 PB0, R6 PF11, R7 PF14, R8 PE7, R9 PE10, R10 PE12, R11 PE15, R12 PB10, R13 PB11, R14 PB14, R15 PB15

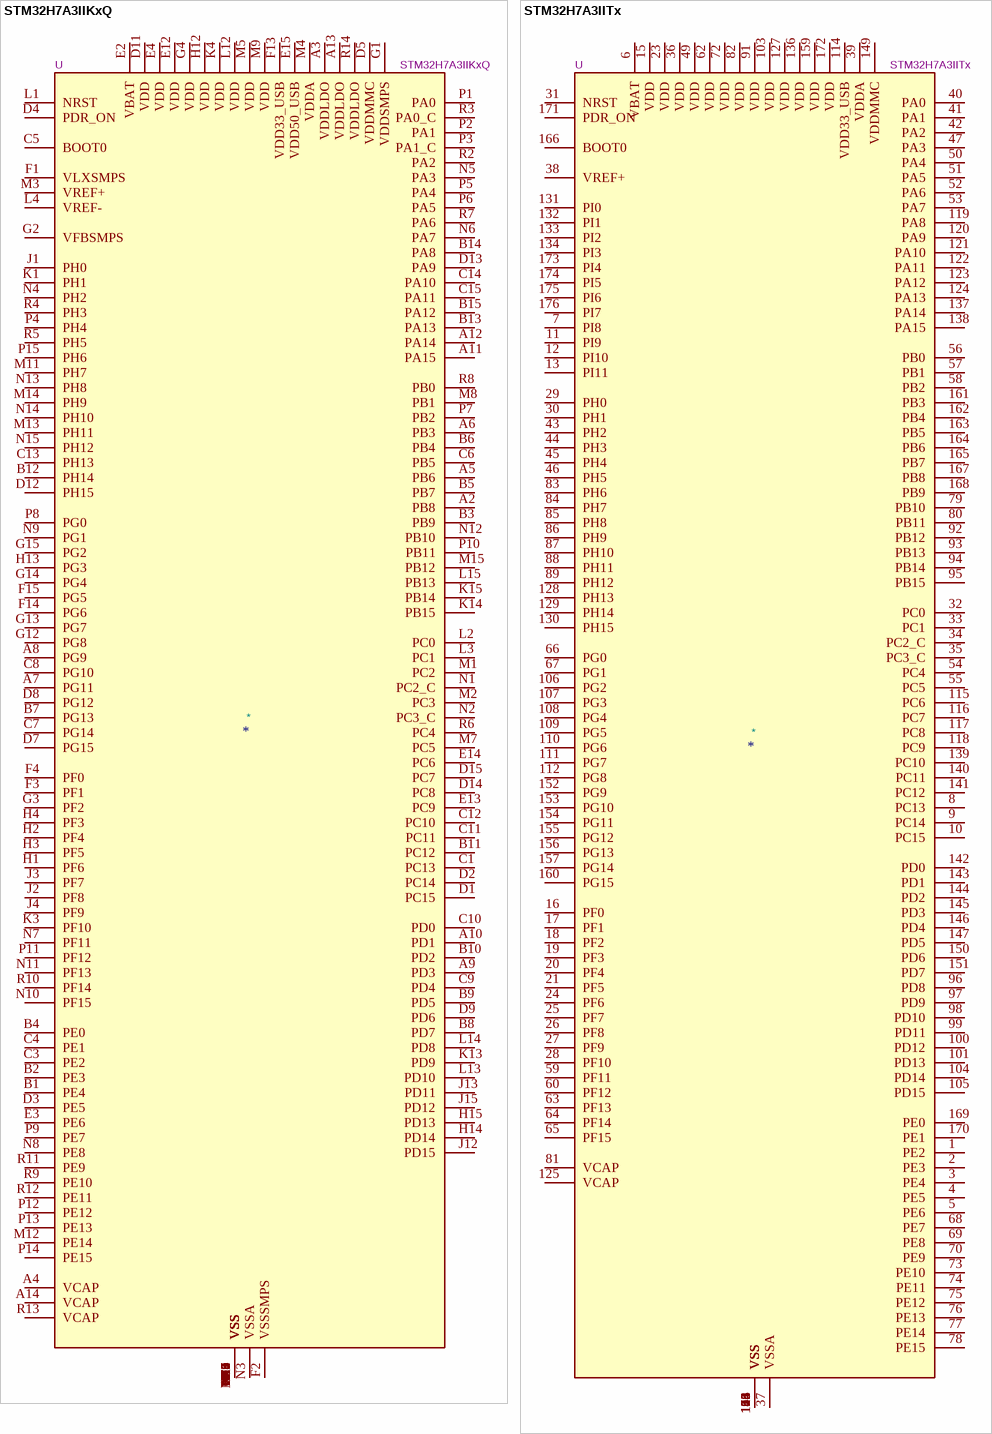
[diagram p6: symbols STM32H7A3IIKxQ to STM32H7A3IITx]

## STM32H7A3IIKxQ
designator *  value STM32H7A3IIKxQ  Reference: U
STMicroelectronics Arm Cortex-M7 MCU, 2048KB flash, 1184KB RAM, 280 MHz, 1.62-3.6V, 132 GPIO, UFBGA176; ki_keywords: Arm Cortex-M7 STM32H7 STM32H7A3/7B3; ki_fp_filters: UFBGA*10x10mm*Layout15x15*P0.65mm*; Footprint: Package_BGA:UFBGA-201_10x10mm_Layout15x15_P0.65mm; Datasheet: https://www.st.com/resource/en/datasheet/stm32h7a3ii.pdf; Description_: STMicroelectronics Arm Cortex-M7 MCU, 2048KB flash, 1184KB RAM, 280 MHz, 1.62-3.6V, 132 GPIO, UFBGA176
pins: A1 VSS, A2 PB8, A3 VDDLDO, A4 VCAP, A5 PB6, A6 PB3, A7 PG11, A8 PG9, A9 PD3, A10 PD1, A11 PA15, A12 PA14, A13 VDDLDO, A14 VCAP, A15 VSS, B1 PE4, B2 PE3, B3 PB9, B4 PE0, B5 PB7, B6 PB4, B7 PG13, B8 PD7, B9 PD5, B10 PD2, B11 PC12, B12 PH14, B13 PA13, B14 PA8, B15 PA12, C1 PC13, C2 VSS, C3 PE2, C4 PE1, C5 BOOT0, C6 PB5, C7 PG14, C8 PG10, C9 PD4, C10 PD0, C11 PC11, C12 PC10, C13 PH13, C14 PA10, C15 PA11, D1 PC15, D2 PC14, D3 PE5, D4 PDR_ON, D5 VDDMMC, D6 VSS, D7 PG15, D8 PG12, D9 PD6, D10 VSS, D11 VDD, D12 PH15, D13 PA9, D14 PC8, D15 PC7, E1 VSS, E2 VBAT, E3 PE6, E4 VDD, E12 VDD, E13 PC9, E14 PC6, E15 VDD50_USB, F1 VLXSMPS, F2 VSSSMPS, F3 PF1, F4 PF0, F6 VSS, F7 VSS, F8 VSS, F9 VSS, F10 VSS, F12 VSS, F13 VDD33_USB, F14 PG6, F15 PG5, G1 VDDSMPS, G2 VFBSMPS, G3 PF2, G4 VDD, G6 VSS, G7 VSS, G8 VSS, G9 VSS, G10 VSS, G12 PG8, G13 PG7, G14 PG4, G15 PG2, H1 PF6, H2 PF4, H3 PF5, H4 PF3, H6 VSS, H7 VSS, H8 VSS, H9 VSS, H10 VSS, H12 VDD, H13 PG3, H14 PD14, H15 PD13, J1 PH0, J2 PF8, J3 PF7, J4 PF9, J6 VSS, J7 VSS, J8 VSS, J9 VSS, J10 VSS, J12 PD15, J13 PD11, J14 VSS, J15 PD12, K1 PH1, K2 VSS, K3 PF10, K4 VDD, K6 VSS, K7 VSS, K8 VSS, K9 VSS, K10 VSS, K12 VSS, K13 PD9, K14 PB15, K15 PB14, L1 NRST, L2 PC0, L3 PC1, L4 VREF-, L12 VDD, L13 PD10, L14 PD8, L15 PB13, M1 PC2, M2 PC3, M3 VREF+, M4 VDDA, M5 VDD, M6 VSS, M7 PC5, M8 PB1, M9 VDD, M10 VSS, M11 PH7, M12 PE14, M13 PH11, M14 PH9, M15 PB12, N1 PC2_C, N2 PC3_C, N3 VSSA, N4 PH2, N5 PA3, N6 PA7, N7 PF11, N8 PE8, N9 PG1, N10 PF15, N11 PF13, N12 PB10, N13 PH8, N14 PH10, N15 PH12, P1 PA0, P2 PA1, P3 PA1_C, P4 PH4, P5 PA4, P6 PA5, P7 PB2, P8 PG0, P9 PE7, P10 PB11, P11 PF12, P12 PE12, P13 PE13, P14 PE15, P15 PH6, R1 VSS, R2 PA2, R3 PA0_C, R4 PH3, R5 PH5, R6 PC4, R7 PA6, R8 PB0, R9 PE10, R10 PF14, R11 PE9, R12 PE11, R13 VCAP, R14 VDDLDO, R15 VSS

## STM32H7A3IITx
designator *  value STM32H7A3IITx  Reference: U
STMicroelectronics Arm Cortex-M7 MCU, 2048KB flash, 1184KB RAM, 280 MHz, 1.62-3.6V, 140 GPIO, LQFP176; ki_keywords: Arm Cortex-M7 STM32H7 STM32H7A3/7B3; ki_fp_filters: LQFP*24x24mm*P0.5mm*; Footprint: Package_QFP:LQFP-176_24x24mm_P0.5mm; Datasheet: https://www.st.com/resource/en/datasheet/stm32h7a3ii.pdf; Description_: STMicroelectronics Arm Cortex-M7 MCU, 2048KB flash, 1184KB RAM, 280 MHz, 1.62-3.6V, 140 GPIO, LQFP176
pins: 1 PE2, 2 PE3, 3 PE4, 4 PE5, 5 PE6, 6 VBAT, 7 PI8, 8 PC13, 9 PC14, 10 PC15, 11 PI9, 12 PI10, 13 PI11, 14 VSS, 15 VDD, 16 PF0, 17 PF1, 18 PF2, 19 PF3, 20 PF4, 21 PF5, 22 VSS, 23 VDD, 24 PF6, 25 PF7, 26 PF8, 27 PF9, 28 PF10, 29 PH0, 30 PH1, 31 NRST, 32 PC0, 33 PC1, 34 PC2_C, 35 PC3_C, 36 VDD, 37 VSSA, 38 VREF+, 39 VDDA, 40 PA0, 41 PA1, 42 PA2, 43 PH2, 44 PH3, 45 PH4, 46 PH5, 47 PA3, 48 VSS, 49 VDD, 50 PA4, 51 PA5, 52 PA6, 53 PA7, 54 PC4, 55 PC5, 56 PB0, 57 PB1, 58 PB2, 59 PF11, 60 PF12, 61 VSS, 62 VDD, 63 PF13, 64 PF14, 65 PF15, 66 PG0, 67 PG1, 68 PE7, 69 PE8, 70 PE9, 71 VSS, 72 VDD, 73 PE10, 74 PE11, 75 PE12, 76 PE13, 77 PE14, 78 PE15, 79 PB10, 80 PB11, 81 VCAP, 82 VDD, 83 PH6, 84 PH7, 85 PH8, 86 PH9, 87 PH10, 88 PH11, 89 PH12, 90 VSS, 91 VDD, 92 PB12, 93 PB13, 94 PB14, 95 PB15, 96 PD8, 97 PD9, 98 PD10, 99 PD11, 100 PD12, 101 PD13, 102 VSS, 103 VDD, 104 PD14, 105 PD15, 106 PG2, 107 PG3, 108 PG4, 109 PG5, 110 PG6, 111 PG7, 112 PG8, 113 VSS, 114 VDD33_USB, 115 PC6, 116 PC7, 117 PC8, 118 PC9, 119 PA8, 120 PA9, 121 PA10, 122 PA11, 123 PA12, 124 PA13, 125 VCAP, 126 VSS, 127 VDD, 128 PH13, 129 PH14, 130 PH15, 131 PI0, 132 PI1, 133 PI2, 134 PI3, 135 VSS, 136 VDD, 137 PA14, 138 PA15, 139 PC10, 140 PC11, 141 PC12, 142 PD0, 143 PD1, 144 PD2, 145 PD3, 146 PD4, 147 PD5, 148 VSS, 149 VDDMMC, 150 PD6, 151 PD7, 152 PG9, 153 PG10, 154 PG11, 155 PG12, 156 PG13, 157 PG14, 158 VSS, 159 VDD, 160 PG15, 161 PB3, 162 PB4, 163 PB5, 164 PB6, 165 PB7, 166 BOOT0, 167 PB8, 168 PB9, 169 PE0, 170 PE1, 171 PDR_ON, 172 VDD, 173 PI4, 174 PI5, 175 PI6, 176 PI7

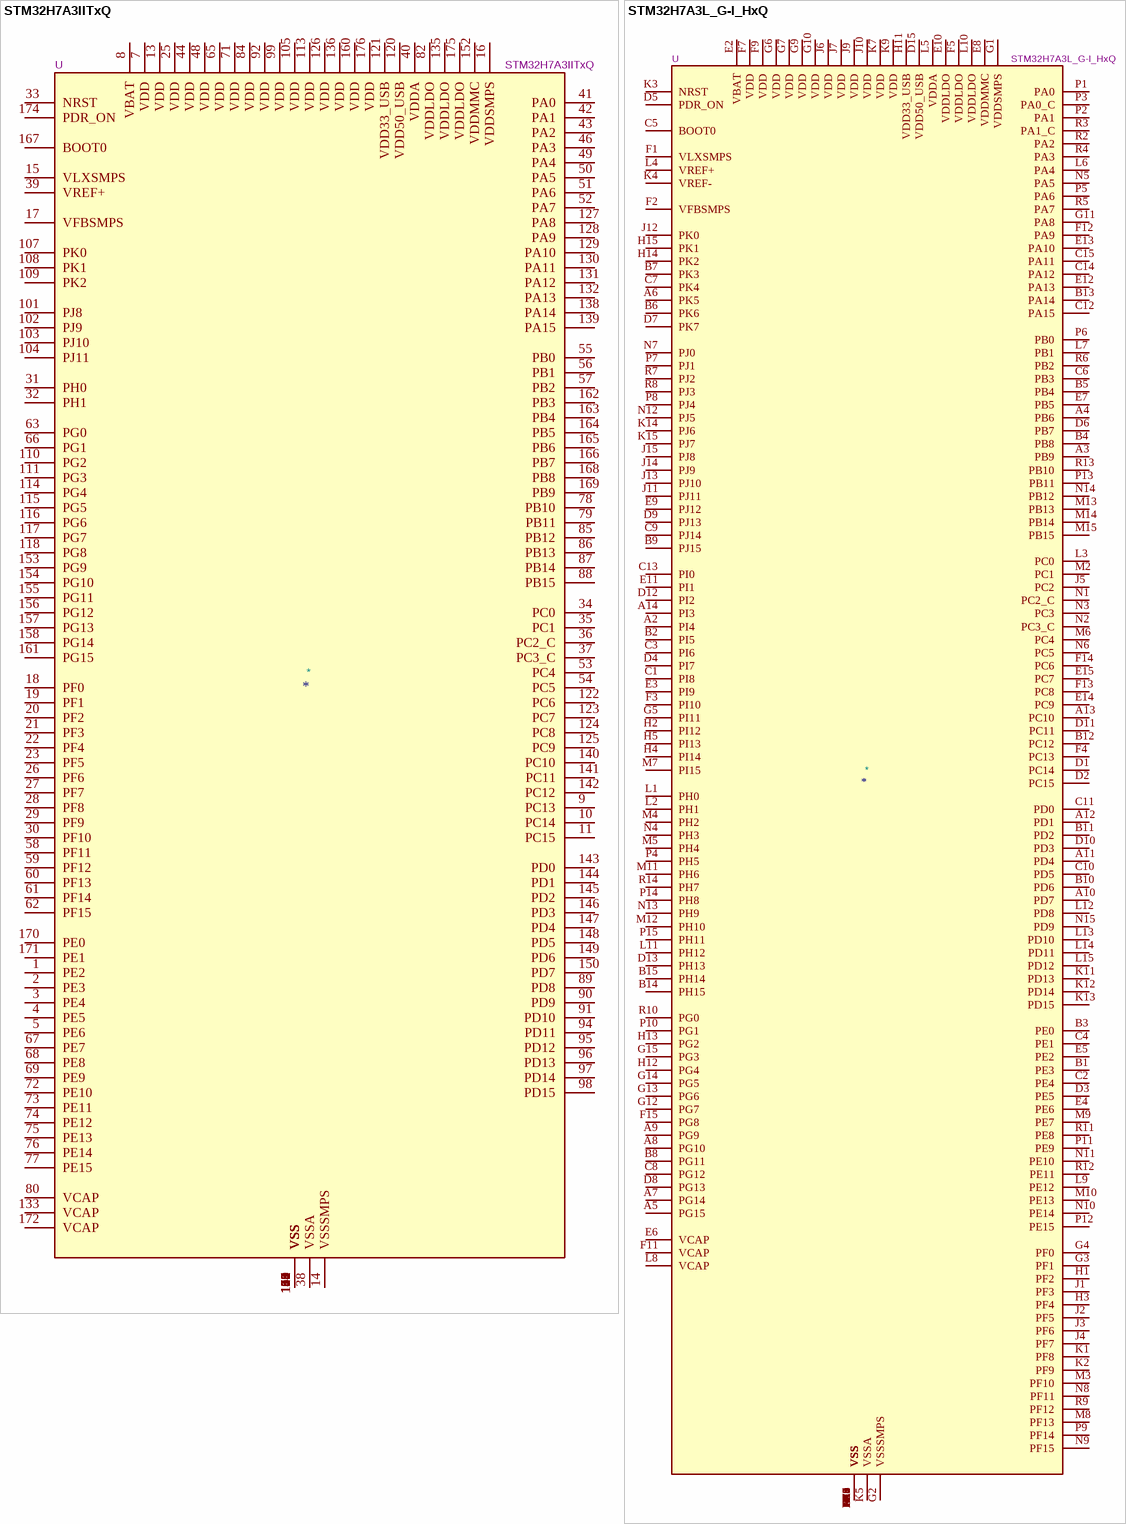
[diagram p7: symbols STM32H7A3IITxQ to STM32H7A3L_G-I_HxQ]

## STM32H7A3IITxQ
designator *  value STM32H7A3IITxQ  Reference: U
STMicroelectronics Arm Cortex-M7 MCU, 2048KB flash, 1184KB RAM, 280 MHz, 1.62-3.6V, 121 GPIO, LQFP176; ki_keywords: Arm Cortex-M7 STM32H7 STM32H7A3/7B3; ki_fp_filters: LQFP*24x24mm*P0.5mm*; Footprint: Package_QFP:LQFP-176_24x24mm_P0.5mm; Datasheet: https://www.st.com/resource/en/datasheet/stm32h7a3ii.pdf; Description_: STMicroelectronics Arm Cortex-M7 MCU, 2048KB flash, 1184KB RAM, 280 MHz, 1.62-3.6V, 121 GPIO, LQFP176
pins: 1 PE2, 2 PE3, 3 PE4, 4 PE5, 5 PE6, 6 VSS, 7 VDD, 8 VBAT, 9 PC13, 10 PC14, 11 PC15, 12 VSS, 13 VDD, 14 VSSSMPS, 15 VLXSMPS, 16 VDDSMPS, 17 VFBSMPS, 18 PF0, 19 PF1, 20 PF2, 21 PF3, 22 PF4, 23 PF5, 24 VSS, 25 VDD, 26 PF6, 27 PF7, 28 PF8, 29 PF9, 30 PF10, 31 PH0, 32 PH1, 33 NRST, 34 PC0, 35 PC1, 36 PC2_C, 37 PC3_C, 38 VSSA, 39 VREF+, 40 VDDA, 41 PA0, 42 PA1, 43 PA2, 44 VDD, 45 VSS, 46 PA3, 47 VSS, 48 VDD, 49 PA4, 50 PA5, 51 PA6, 52 PA7, 53 PC4, 54 PC5, 55 PB0, 56 PB1, 57 PB2, 58 PF11, 59 PF12, 60 PF13, 61 PF14, 62 PF15, 63 PG0, 64 VSS, 65 VDD, 66 PG1, 67 PE7, 68 PE8, 69 PE9, 70 VSS, 71 VDD, 72 PE10, 73 PE11, 74 PE12, 75 PE13, 76 PE14, 77 PE15, 78 PB10, 79 PB11, 80 VCAP, 81 VSS, 82 VDDLDO, 83 VSS, 84 VDD, 85 PB12, 86 PB13, 87 PB14, 88 PB15, 89 PD8, 90 PD9, 91 PD10, 92 VDD, 93 VSS, 94 PD11, 95 PD12, 96 PD13, 97 PD14, 98 PD15, 99 VDD, 100 VSS, 101 PJ8, 102 PJ9, 103 PJ10, 104 PJ11, 105 VDD, 106 VSS, 107 PK0, 108 PK1, 109 PK2, 110 PG2, 111 PG3, 112 VSS, 113 VDD, 114 PG4, 115 PG5, 116 PG6, 117 PG7, 118 PG8, 119 VSS, 120 VDD50_USB, 121 VDD33_USB, 122 PC6, 123 PC7, 124 PC8, 125 PC9, 126 VDD, 127 PA8, 128 PA9, 129 PA10, 130 PA11, 131 PA12, 132 PA13, 133 VCAP, 134 VSS, 135 VDDLDO, 136 VDD, 137 VSS, 138 PA14, 139 PA15, 140 PC10, 141 PC11, 142 PC12, 143 PD0, 144 PD1, 145 PD2, 146 PD3, 147 PD4, 148 PD5, 149 PD6, 150 PD7, 151 VSS, 152 VDDMMC, 153 PG9, 154 PG10, 155 PG11, 156 PG12, 157 PG13, 158 PG14, 159 VSS, 160 VDD, 161 PG15, 162 PB3, 163 PB4, 164 PB5, 165 PB6, 166 PB7, 167 BOOT0, 168 PB8, 169 PB9, 170 PE0, 171 PE1, 172 VCAP, 173 VSS, 174 PDR_ON, 175 VDDLDO, 176 VDD

## STM32H7A3L_G-I_HxQ
designator *  value STM32H7A3L_G-I_HxQ  Reference: U
STMicroelectronics Arm Cortex-M7 MCU, 1024-2048KB flash, 1184KB RAM, 280 MHz, 1.62-3.6V, 172 GPIO, TFBGA225; ki_keywords: Arm Cortex-M7 STM32H7 STM32H7A3/7B3; ki_fp_filters: ST*TFBGA*13x13mm*Layout15x15*P0.8mm*; Footprint: Package_BGA:ST_TFBGA-225_13x13mm_Layout15x15_P0.8mm; Datasheet: https://www.st.com/resource/en/datasheet/stm32h7a3lg.pdf; Description_: STMicroelectronics Arm Cortex-M7 MCU, 1024-2048KB flash, 1184KB RAM, 280 MHz, 1.62-3.6V, 172 GPIO, TFBGA225
pins: A1 VSS, A2 PI4, A3 PB9, A4 PB6, A5 PG15, A6 PK5, A7 PG14, A8 PG10, A9 PG9, A10 PD7, A11 PD4, A12 PD1, A13 PC10, A14 PI3, A15 VSS, B1 PE3, B2 PI5, B3 PE0, B4 PB8, B5 PB4, B6 PK6, B7 PK3, B8 PG11, B9 PJ15, B10 PD6, B11 PD2, B12 PC12, B13 PA14, B14 PH15, B15 PH14, C1 PI8, C2 PE4, C3 PI6, C4 PE1, C5 BOOT0, C6 PB3, C7 PK4, C8 PG12, C9 PJ14, C10 PD5, C11 PD0, C12 PA15, C13 PI0, C14 PA12, C15 PA11, D1 PC14, D2 PC15, D3 PE5, D4 PI7, D5 PDR_ON, D6 PB7, D7 PK7, D8 PG13, D9 PJ13, D10 PD3, D11 PC11, D12 PI2, D13 PH13, D14 VSS, D15 VDD50_USB, E1 VSS, E2 VBAT, E3 PI9, E4 PE6, E5 PE2, E6 VCAP, E7 PB5, E8 VDDMMC, E9 PJ12, E10 VDDLDO, E11 PI1, E12 PA13, E13 PA10, E14 PC9, E15 PC7, F1 VLXSMPS, F2 VFBSMPS, F3 PI10, F4 PC13, F5 VDDLDO, F6 VSS, F7 VDD, F8 VSS, F9 VDD, F10 VSS, F11 VCAP, F12 PA9, F13 PC8, F14 PC6, F15 PG8, G1 VDDSMPS, G2 VSSSMPS, G3 PF1, G4 PF0, G5 PI11, G6 VDD, G7 VDD, G8 VSS, G9 VDD, G10 VDD, G11 PA8, G12 PG7, G13 PG6, G14 PG5, G15 PG3, H1 PF2, H2 PI12, H3 PF4, H4 PI14, H5 PI13, H6 VSS, H7 VSS, H8 VSS, H9 VSS, H10 VSS, H11 VDD33_USB, H12 PG4, H13 PG2, H14 PK2, H15 PK1, J1 PF3, J2 PF5, J3 PF6, J4 PF7, J5 PC2, J6 VDD, J7 VDD, J8 VSS, J9 VDD, J10 VDD, J11 PJ11, J12 PK0, J13 PJ10, J14 PJ9, J15 PJ8, K1 PF8, K2 PF9, K3 NRST, K4 VREF-, K5 VSSA, K6 VSS, K7 VDD, K8 VSS, K9 VDD, K10 VSS, K11 PD13, K12 PD14, K13 PD15, K14 PJ6, K15 PJ7, L1 PH0, L2 PH1, L3 PC0, L4 VREF+, L5 VDDA, L6 PA4, L7 PB1, L8 VCAP, L9 PE12, L10 VDDLDO, L11 PH12, L12 PD8, L13 PD10, L14 PD11, L15 PD12, M1 VSS, M2 PC1, M3 PF10, M4 PH2, M5 PH4, M6 PC4, M7 PI15, M8 PF13, M9 PE7, M10 PE13, M11 PH6, M12 PH10, M13 PB13, M14 PB14, M15 PB15, N1 PC2_C, N2 PC3_C, N3 PC3, N4 PH3, N5 PA5, N6 PC5, N7 PJ0, N8 PF11, N9 PF15, N10 PE14, N11 PE10, N12 PJ5, N13 PH9, N14 PB12, N15 PD9, P1 PA0, P2 PA1, P3 PA0_C, P4 PH5, P5 PA6, P6 PB0, P7 PJ1, P8 PJ4, P9 PF14, P10 PG1, P11 PE9, P12 PE15, P13 PB11, P14 PH8, P15 PH11, R1 VSS, R2 PA2, R3 PA1_C, R4 PA3, R5 PA7, R6 PB2, R7 PJ2, R8 PJ3, R9 PF12, R10 PG0, R11 PE8, R12 PE11, R13 PB10, R14 PH7, R15 VSS

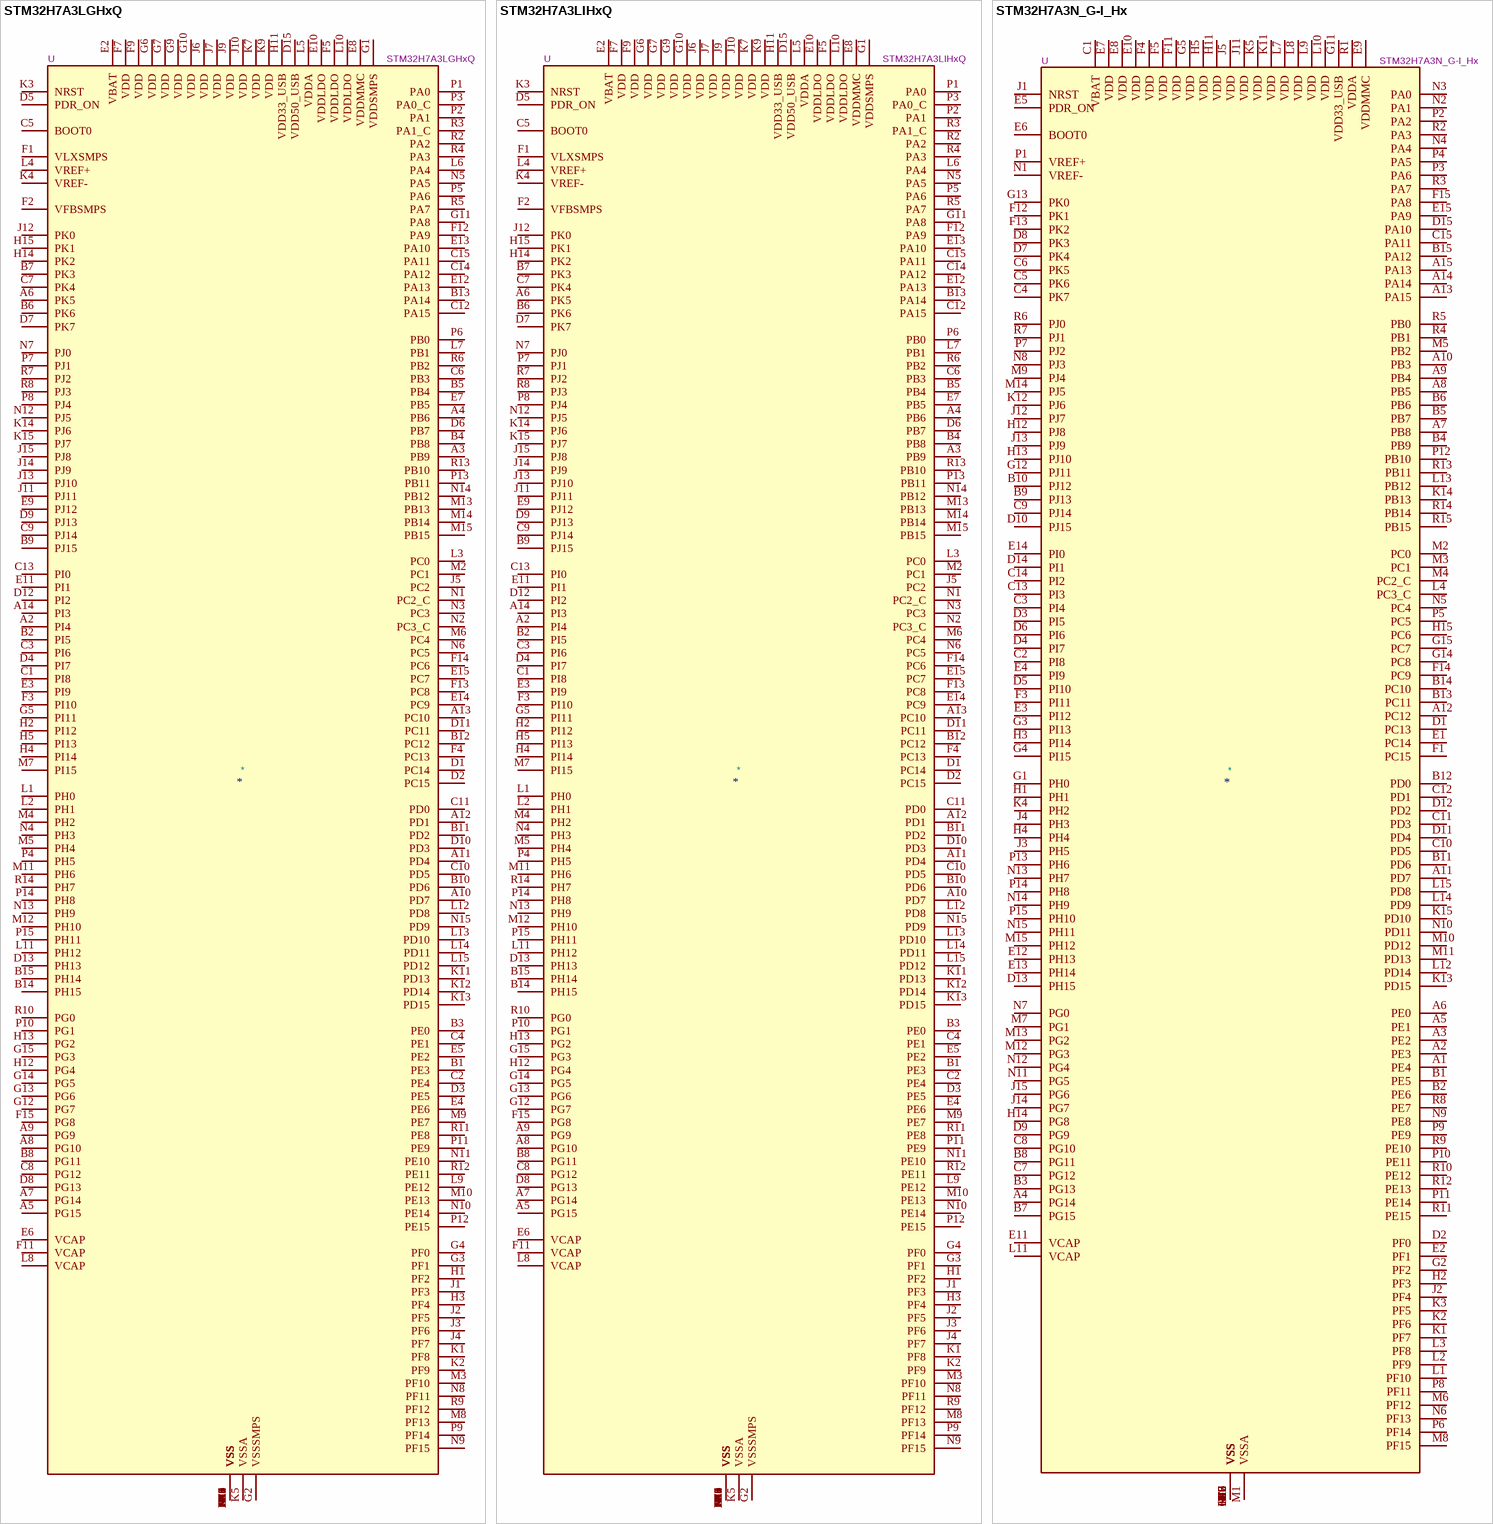
[diagram p8: symbols STM32H7A3LGHxQ to STM32H7A3N_G-I_Hx]

## STM32H7A3LGHxQ
designator *  value STM32H7A3LGHxQ  Reference: U
STMicroelectronics Arm Cortex-M7 MCU, 1024KB flash, 1184KB RAM, 280 MHz, 1.62-3.6V, 172 GPIO, TFBGA225; ki_keywords: Arm Cortex-M7 STM32H7 STM32H7A3/7B3; ki_fp_filters: ST*TFBGA*13x13mm*Layout15x15*P0.8mm*; Footprint: Package_BGA:ST_TFBGA-225_13x13mm_Layout15x15_P0.8mm; Datasheet: https://www.st.com/resource/en/datasheet/stm32h7a3lg.pdf; Description_: STMicroelectronics Arm Cortex-M7 MCU, 1024KB flash, 1184KB RAM, 280 MHz, 1.62-3.6V, 172 GPIO, TFBGA225
pins: A1 VSS, A2 PI4, A3 PB9, A4 PB6, A5 PG15, A6 PK5, A7 PG14, A8 PG10, A9 PG9, A10 PD7, A11 PD4, A12 PD1, A13 PC10, A14 PI3, A15 VSS, B1 PE3, B2 PI5, B3 PE0, B4 PB8, B5 PB4, B6 PK6, B7 PK3, B8 PG11, B9 PJ15, B10 PD6, B11 PD2, B12 PC12, B13 PA14, B14 PH15, B15 PH14, C1 PI8, C2 PE4, C3 PI6, C4 PE1, C5 BOOT0, C6 PB3, C7 PK4, C8 PG12, C9 PJ14, C10 PD5, C11 PD0, C12 PA15, C13 PI0, C14 PA12, C15 PA11, D1 PC14, D2 PC15, D3 PE5, D4 PI7, D5 PDR_ON, D6 PB7, D7 PK7, D8 PG13, D9 PJ13, D10 PD3, D11 PC11, D12 PI2, D13 PH13, D14 VSS, D15 VDD50_USB, E1 VSS, E2 VBAT, E3 PI9, E4 PE6, E5 PE2, E6 VCAP, E7 PB5, E8 VDDMMC, E9 PJ12, E10 VDDLDO, E11 PI1, E12 PA13, E13 PA10, E14 PC9, E15 PC7, F1 VLXSMPS, F2 VFBSMPS, F3 PI10, F4 PC13, F5 VDDLDO, F6 VSS, F7 VDD, F8 VSS, F9 VDD, F10 VSS, F11 VCAP, F12 PA9, F13 PC8, F14 PC6, F15 PG8, G1 VDDSMPS, G2 VSSSMPS, G3 PF1, G4 PF0, G5 PI11, G6 VDD, G7 VDD, G8 VSS, G9 VDD, G10 VDD, G11 PA8, G12 PG7, G13 PG6, G14 PG5, G15 PG3, H1 PF2, H2 PI12, H3 PF4, H4 PI14, H5 PI13, H6 VSS, H7 VSS, H8 VSS, H9 VSS, H10 VSS, H11 VDD33_USB, H12 PG4, H13 PG2, H14 PK2, H15 PK1, J1 PF3, J2 PF5, J3 PF6, J4 PF7, J5 PC2, J6 VDD, J7 VDD, J8 VSS, J9 VDD, J10 VDD, J11 PJ11, J12 PK0, J13 PJ10, J14 PJ9, J15 PJ8, K1 PF8, K2 PF9, K3 NRST, K4 VREF-, K5 VSSA, K6 VSS, K7 VDD, K8 VSS, K9 VDD, K10 VSS, K11 PD13, K12 PD14, K13 PD15, K14 PJ6, K15 PJ7, L1 PH0, L2 PH1, L3 PC0, L4 VREF+, L5 VDDA, L6 PA4, L7 PB1, L8 VCAP, L9 PE12, L10 VDDLDO, L11 PH12, L12 PD8, L13 PD10, L14 PD11, L15 PD12, M1 VSS, M2 PC1, M3 PF10, M4 PH2, M5 PH4, M6 PC4, M7 PI15, M8 PF13, M9 PE7, M10 PE13, M11 PH6, M12 PH10, M13 PB13, M14 PB14, M15 PB15, N1 PC2_C, N2 PC3_C, N3 PC3, N4 PH3, N5 PA5, N6 PC5, N7 PJ0, N8 PF11, N9 PF15, N10 PE14, N11 PE10, N12 PJ5, N13 PH9, N14 PB12, N15 PD9, P1 PA0, P2 PA1, P3 PA0_C, P4 PH5, P5 PA6, P6 PB0, P7 PJ1, P8 PJ4, P9 PF14, P10 PG1, P11 PE9, P12 PE15, P13 PB11, P14 PH8, P15 PH11, R1 VSS, R2 PA2, R3 PA1_C, R4 PA3, R5 PA7, R6 PB2, R7 PJ2, R8 PJ3, R9 PF12, R10 PG0, R11 PE8, R12 PE11, R13 PB10, R14 PH7, R15 VSS

## STM32H7A3LIHxQ
designator *  value STM32H7A3LIHxQ  Reference: U
STMicroelectronics Arm Cortex-M7 MCU, 2048KB flash, 1184KB RAM, 280 MHz, 1.62-3.6V, 172 GPIO, TFBGA225; ki_keywords: Arm Cortex-M7 STM32H7 STM32H7A3/7B3; ki_fp_filters: ST*TFBGA*13x13mm*Layout15x15*P0.8mm*; Footprint: Package_BGA:ST_TFBGA-225_13x13mm_Layout15x15_P0.8mm; Datasheet: https://www.st.com/resource/en/datasheet/stm32h7a3li.pdf; Description_: STMicroelectronics Arm Cortex-M7 MCU, 2048KB flash, 1184KB RAM, 280 MHz, 1.62-3.6V, 172 GPIO, TFBGA225
pins: A1 VSS, A2 PI4, A3 PB9, A4 PB6, A5 PG15, A6 PK5, A7 PG14, A8 PG10, A9 PG9, A10 PD7, A11 PD4, A12 PD1, A13 PC10, A14 PI3, A15 VSS, B1 PE3, B2 PI5, B3 PE0, B4 PB8, B5 PB4, B6 PK6, B7 PK3, B8 PG11, B9 PJ15, B10 PD6, B11 PD2, B12 PC12, B13 PA14, B14 PH15, B15 PH14, C1 PI8, C2 PE4, C3 PI6, C4 PE1, C5 BOOT0, C6 PB3, C7 PK4, C8 PG12, C9 PJ14, C10 PD5, C11 PD0, C12 PA15, C13 PI0, C14 PA12, C15 PA11, D1 PC14, D2 PC15, D3 PE5, D4 PI7, D5 PDR_ON, D6 PB7, D7 PK7, D8 PG13, D9 PJ13, D10 PD3, D11 PC11, D12 PI2, D13 PH13, D14 VSS, D15 VDD50_USB, E1 VSS, E2 VBAT, E3 PI9, E4 PE6, E5 PE2, E6 VCAP, E7 PB5, E8 VDDMMC, E9 PJ12, E10 VDDLDO, E11 PI1, E12 PA13, E13 PA10, E14 PC9, E15 PC7, F1 VLXSMPS, F2 VFBSMPS, F3 PI10, F4 PC13, F5 VDDLDO, F6 VSS, F7 VDD, F8 VSS, F9 VDD, F10 VSS, F11 VCAP, F12 PA9, F13 PC8, F14 PC6, F15 PG8, G1 VDDSMPS, G2 VSSSMPS, G3 PF1, G4 PF0, G5 PI11, G6 VDD, G7 VDD, G8 VSS, G9 VDD, G10 VDD, G11 PA8, G12 PG7, G13 PG6, G14 PG5, G15 PG3, H1 PF2, H2 PI12, H3 PF4, H4 PI14, H5 PI13, H6 VSS, H7 VSS, H8 VSS, H9 VSS, H10 VSS, H11 VDD33_USB, H12 PG4, H13 PG2, H14 PK2, H15 PK1, J1 PF3, J2 PF5, J3 PF6, J4 PF7, J5 PC2, J6 VDD, J7 VDD, J8 VSS, J9 VDD, J10 VDD, J11 PJ11, J12 PK0, J13 PJ10, J14 PJ9, J15 PJ8, K1 PF8, K2 PF9, K3 NRST, K4 VREF-, K5 VSSA, K6 VSS, K7 VDD, K8 VSS, K9 VDD, K10 VSS, K11 PD13, K12 PD14, K13 PD15, K14 PJ6, K15 PJ7, L1 PH0, L2 PH1, L3 PC0, L4 VREF+, L5 VDDA, L6 PA4, L7 PB1, L8 VCAP, L9 PE12, L10 VDDLDO, L11 PH12, L12 PD8, L13 PD10, L14 PD11, L15 PD12, M1 VSS, M2 PC1, M3 PF10, M4 PH2, M5 PH4, M6 PC4, M7 PI15, M8 PF13, M9 PE7, M10 PE13, M11 PH6, M12 PH10, M13 PB13, M14 PB14, M15 PB15, N1 PC2_C, N2 PC3_C, N3 PC3, N4 PH3, N5 PA5, N6 PC5, N7 PJ0, N8 PF11, N9 PF15, N10 PE14, N11 PE10, N12 PJ5, N13 PH9, N14 PB12, N15 PD9, P1 PA0, P2 PA1, P3 PA0_C, P4 PH5, P5 PA6, P6 PB0, P7 PJ1, P8 PJ4, P9 PF14, P10 PG1, P11 PE9, P12 PE15, P13 PB11, P14 PH8, P15 PH11, R1 VSS, R2 PA2, R3 PA1_C, R4 PA3, R5 PA7, R6 PB2, R7 PJ2, R8 PJ3, R9 PF12, R10 PG0, R11 PE8, R12 PE11, R13 PB10, R14 PH7, R15 VSS

## STM32H7A3N_G-I_Hx
designator *  value STM32H7A3N_G-I_Hx  Reference: U
STMicroelectronics Arm Cortex-M7 MCU, 1024-2048KB flash, 1184KB RAM, 280 MHz, 1.62-3.6V, 168 GPIO, TFBGA216; ki_keywords: Arm Cortex-M7 STM32H7 STM32H7A3/7B3; ki_fp_filters: TFBGA*13x13mm*Layout15x15*P0.8mm*; Footprint: Package_BGA:TFBGA-216_13x13mm_Layout15x15_P0.8mm; Datasheet: https://www.st.com/resource/en/datasheet/stm32h7a3ng.pdf; Description_: STMicroelectronics Arm Cortex-M7 MCU, 1024-2048KB flash, 1184KB RAM, 280 MHz, 1.62-3.6V, 168 GPIO, TFBGA216
pins: A1 PE4, A2 PE3, A3 PE2, A4 PG14, A5 PE1, A6 PE0, A7 PB8, A8 PB5, A9 PB4, A10 PB3, A11 PD7, A12 PC12, A13 PA15, A14 PA14, A15 PA13, B1 PE5, B2 PE6, B3 PG13, B4 PB9, B5 PB7, B6 PB6, B7 PG15, B8 PG11, B9 PJ13, B10 PJ12, B11 PD6, B12 PD0, B13 PC11, B14 PC10, B15 PA12, C1 VBAT, C2 PI8, C3 PI4, C4 PK7, C5 PK6, C6 PK5, C7 PG12, C8 PG10, C9 PJ14, C10 PD5, C11 PD3, C12 PD1, C13 PI3, C14 PI2, C15 PA11, D1 PC13, D2 PF0, D3 PI5, D4 PI7, D5 PI10, D6 PI6, D7 PK4, D8 PK3, D9 PG9, D10 PJ15, D11 PD4, D12 PD2, D13 PH15, D14 PI1, D15 PA10, E1 PC14, E2 PF1, E3 PI12, E4 PI9, E5 PDR_ON, E6 BOOT0, E7 VDD, E8 VDD, E9 VDDMMC, E10 VDD, E11 VCAP, E12 PH13, E13 PH14, E14 PI0, E15 PA9, F1 PC15, F2 VSS, F3 PI11, F4 VDD, F5 VDD, F6 VSS, F7 VSS, F8 VSS, F9 VSS, F10 VSS, F11 VDD, F12 PK1, F13 PK2, F14 PC9, F15 PA8, G1 PH0, G2 PF2, G3 PI13, G4 PI15, G5 VDD, G6 VSS, G10 VSS, G11 VDD33_USB, G12 PJ11, G13 PK0, G14 PC8, G15 PC7, H1 PH1, H2 PF3, H3 PI14, H4 PH4, H5 VDD, H6 VSS, H10 VSS, H11 VDD, H12 PJ8, H13 PJ10, H14 PG8, H15 PC6, J1 NRST, J2 PF4, J3 PH5, J4 PH3, J5 VDD, J6 VSS, J10 VSS, J11 VDD, J12 PJ7, J13 PJ9, J14 PG7, J15 PG6, K1 PF7, K2 PF6, K3 PF5, K4 PH2, K5 VDD, K6 VSS, K7 VSS, K8 VSS, K9 VSS, K10 VSS, K11 VDD, K12 PJ6, K13 PD15, K14 PB13, K15 PD10, L1 PF10, L2 PF9, L3 PF8, L4 PC3_C, L5 VSS, L6 VSS, L7 VDD, L8 VDD, L9 VDD, L10 VDD, L11 VCAP, L12 PD14, L13 PB12, L14 PD9, L15 PD8, M1 VSSA, M2 PC0, M3 PC1, M4 PC2_C, M5 PB2, M6 PF12, M7 PG1, M8 PF15, M9 PJ4, M10 PD12, M11 PD13, M12 PG3, M13 PG2, M14 PJ5, M15 PH12, N1 VREF-, N2 PA1, N3 PA0, N4 PA4, N5 PC4, N6 PF13, N7 PG0, N8 PJ3, N9 PE8, N10 PD11, N11 PG5, N12 PG4, N13 PH7, N14 PH9, N15 PH11, P1 VREF+, P2 PA2, P3 PA6, P4 PA5, P5 PC5, P6 PF14, P7 PJ2, P8 PF11, P9 PE9, P10 PE11, P11 PE14, P12 PB10, P13 PH6, P14 PH8, P15 PH10, R1 VDDA, R2 PA3, R3 PA7, R4 PB1, R5 PB0, R6 PJ0, R7 PJ1, R8 PE7, R9 PE10, R10 PE12, R11 PE15, R12 PE13, R13 PB11, R14 PB14, R15 PB15

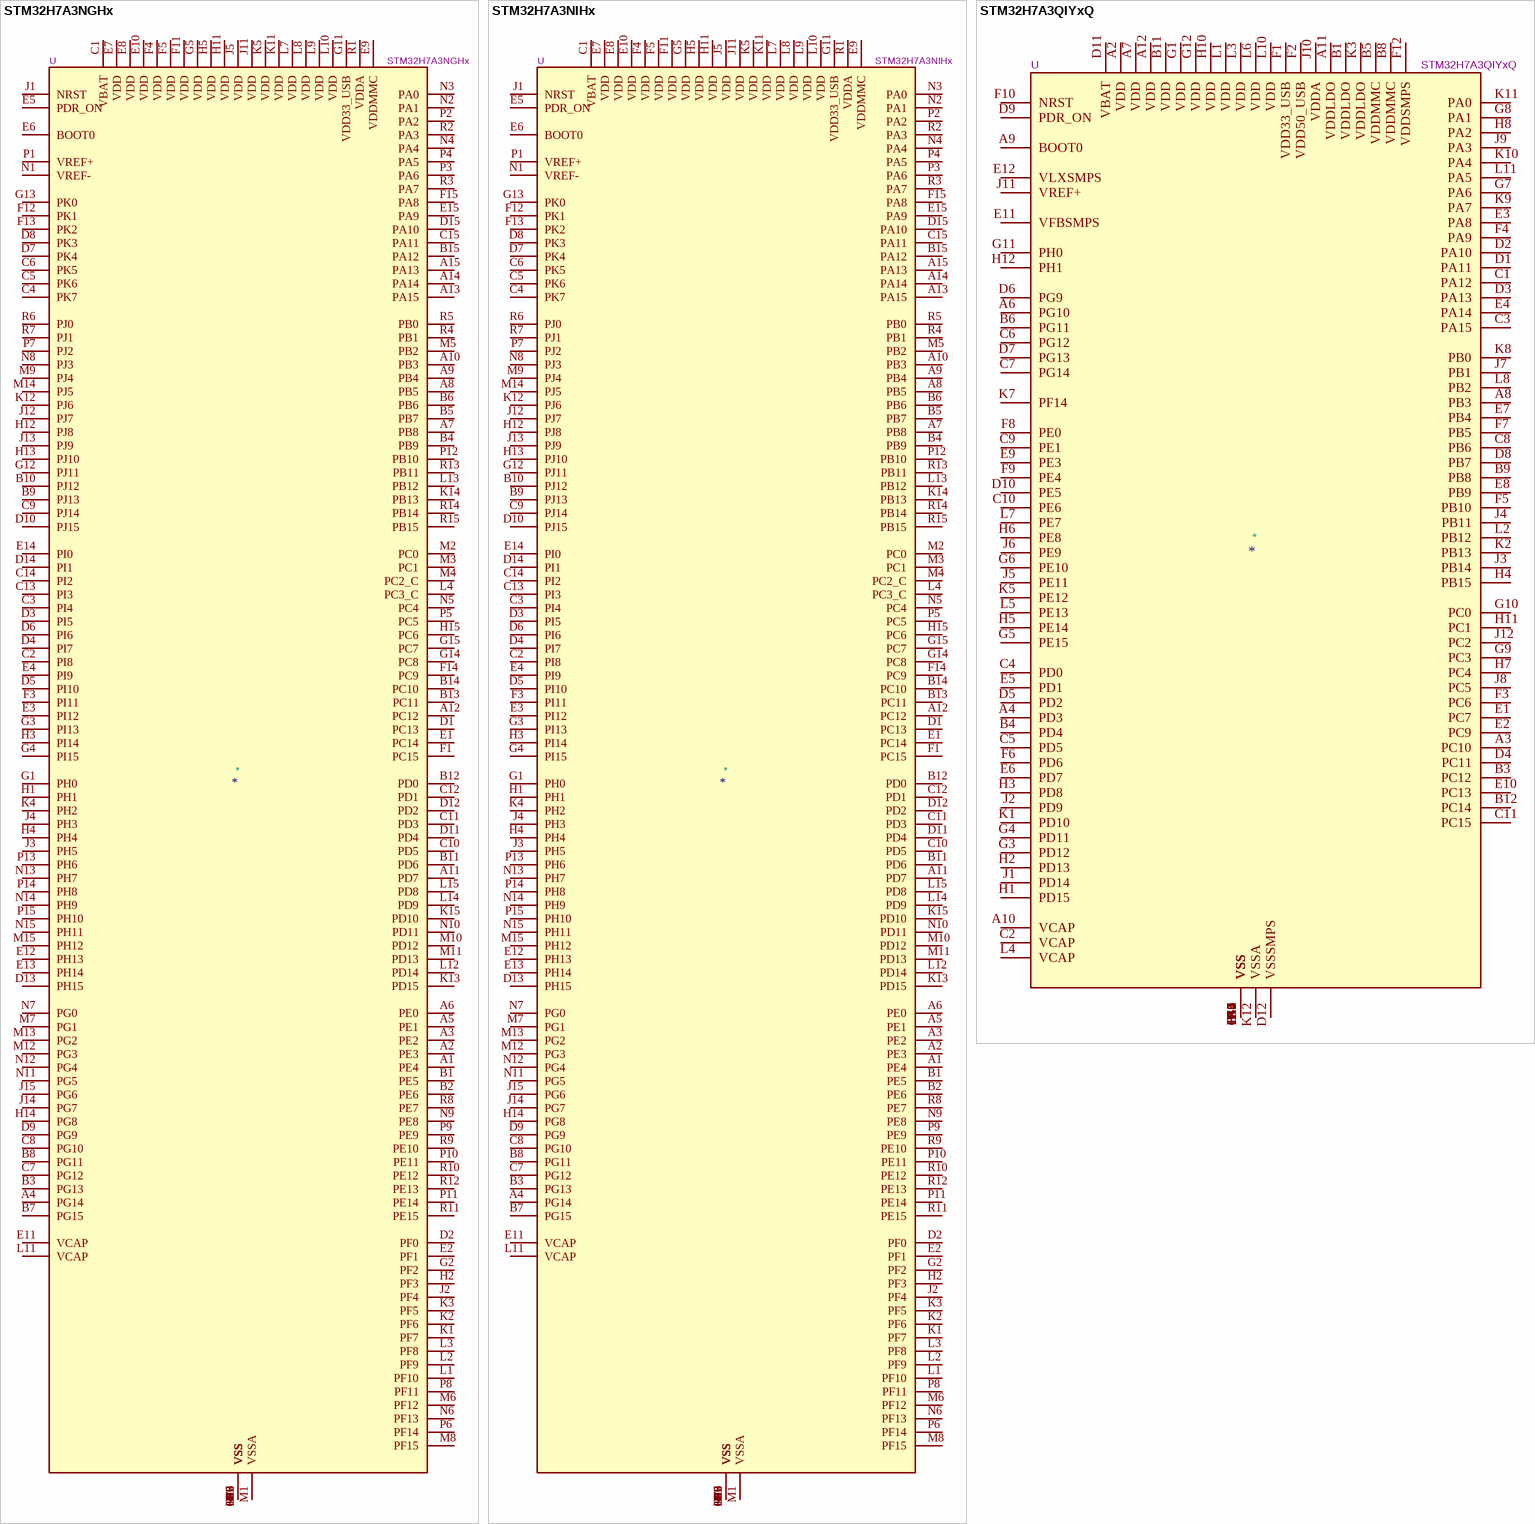
[diagram p9: symbols STM32H7A3NGHx to STM32H7A3QIYxQ]

## STM32H7A3NGHx
designator *  value STM32H7A3NGHx  Reference: U
STMicroelectronics Arm Cortex-M7 MCU, 1024KB flash, 1184KB RAM, 280 MHz, 1.62-3.6V, 168 GPIO, TFBGA216; ki_keywords: Arm Cortex-M7 STM32H7 STM32H7A3/7B3; ki_fp_filters: TFBGA*13x13mm*Layout15x15*P0.8mm*; Footprint: Package_BGA:TFBGA-216_13x13mm_Layout15x15_P0.8mm; Datasheet: https://www.st.com/resource/en/datasheet/stm32h7a3ng.pdf; Description_: STMicroelectronics Arm Cortex-M7 MCU, 1024KB flash, 1184KB RAM, 280 MHz, 1.62-3.6V, 168 GPIO, TFBGA216
pins: A1 PE4, A2 PE3, A3 PE2, A4 PG14, A5 PE1, A6 PE0, A7 PB8, A8 PB5, A9 PB4, A10 PB3, A11 PD7, A12 PC12, A13 PA15, A14 PA14, A15 PA13, B1 PE5, B2 PE6, B3 PG13, B4 PB9, B5 PB7, B6 PB6, B7 PG15, B8 PG11, B9 PJ13, B10 PJ12, B11 PD6, B12 PD0, B13 PC11, B14 PC10, B15 PA12, C1 VBAT, C2 PI8, C3 PI4, C4 PK7, C5 PK6, C6 PK5, C7 PG12, C8 PG10, C9 PJ14, C10 PD5, C11 PD3, C12 PD1, C13 PI3, C14 PI2, C15 PA11, D1 PC13, D2 PF0, D3 PI5, D4 PI7, D5 PI10, D6 PI6, D7 PK4, D8 PK3, D9 PG9, D10 PJ15, D11 PD4, D12 PD2, D13 PH15, D14 PI1, D15 PA10, E1 PC14, E2 PF1, E3 PI12, E4 PI9, E5 PDR_ON, E6 BOOT0, E7 VDD, E8 VDD, E9 VDDMMC, E10 VDD, E11 VCAP, E12 PH13, E13 PH14, E14 PI0, E15 PA9, F1 PC15, F2 VSS, F3 PI11, F4 VDD, F5 VDD, F6 VSS, F7 VSS, F8 VSS, F9 VSS, F10 VSS, F11 VDD, F12 PK1, F13 PK2, F14 PC9, F15 PA8, G1 PH0, G2 PF2, G3 PI13, G4 PI15, G5 VDD, G6 VSS, G10 VSS, G11 VDD33_USB, G12 PJ11, G13 PK0, G14 PC8, G15 PC7, H1 PH1, H2 PF3, H3 PI14, H4 PH4, H5 VDD, H6 VSS, H10 VSS, H11 VDD, H12 PJ8, H13 PJ10, H14 PG8, H15 PC6, J1 NRST, J2 PF4, J3 PH5, J4 PH3, J5 VDD, J6 VSS, J10 VSS, J11 VDD, J12 PJ7, J13 PJ9, J14 PG7, J15 PG6, K1 PF7, K2 PF6, K3 PF5, K4 PH2, K5 VDD, K6 VSS, K7 VSS, K8 VSS, K9 VSS, K10 VSS, K11 VDD, K12 PJ6, K13 PD15, K14 PB13, K15 PD10, L1 PF10, L2 PF9, L3 PF8, L4 PC3_C, L5 VSS, L6 VSS, L7 VDD, L8 VDD, L9 VDD, L10 VDD, L11 VCAP, L12 PD14, L13 PB12, L14 PD9, L15 PD8, M1 VSSA, M2 PC0, M3 PC1, M4 PC2_C, M5 PB2, M6 PF12, M7 PG1, M8 PF15, M9 PJ4, M10 PD12, M11 PD13, M12 PG3, M13 PG2, M14 PJ5, M15 PH12, N1 VREF-, N2 PA1, N3 PA0, N4 PA4, N5 PC4, N6 PF13, N7 PG0, N8 PJ3, N9 PE8, N10 PD11, N11 PG5, N12 PG4, N13 PH7, N14 PH9, N15 PH11, P1 VREF+, P2 PA2, P3 PA6, P4 PA5, P5 PC5, P6 PF14, P7 PJ2, P8 PF11, P9 PE9, P10 PE11, P11 PE14, P12 PB10, P13 PH6, P14 PH8, P15 PH10, R1 VDDA, R2 PA3, R3 PA7, R4 PB1, R5 PB0, R6 PJ0, R7 PJ1, R8 PE7, R9 PE10, R10 PE12, R11 PE15, R12 PE13, R13 PB11, R14 PB14, R15 PB15

## STM32H7A3NIHx
designator *  value STM32H7A3NIHx  Reference: U
STMicroelectronics Arm Cortex-M7 MCU, 2048KB flash, 1184KB RAM, 280 MHz, 1.62-3.6V, 168 GPIO, TFBGA216; ki_keywords: Arm Cortex-M7 STM32H7 STM32H7A3/7B3; ki_fp_filters: TFBGA*13x13mm*Layout15x15*P0.8mm*; Footprint: Package_BGA:TFBGA-216_13x13mm_Layout15x15_P0.8mm; Datasheet: https://www.st.com/resource/en/datasheet/stm32h7a3ni.pdf; Description_: STMicroelectronics Arm Cortex-M7 MCU, 2048KB flash, 1184KB RAM, 280 MHz, 1.62-3.6V, 168 GPIO, TFBGA216
pins: A1 PE4, A2 PE3, A3 PE2, A4 PG14, A5 PE1, A6 PE0, A7 PB8, A8 PB5, A9 PB4, A10 PB3, A11 PD7, A12 PC12, A13 PA15, A14 PA14, A15 PA13, B1 PE5, B2 PE6, B3 PG13, B4 PB9, B5 PB7, B6 PB6, B7 PG15, B8 PG11, B9 PJ13, B10 PJ12, B11 PD6, B12 PD0, B13 PC11, B14 PC10, B15 PA12, C1 VBAT, C2 PI8, C3 PI4, C4 PK7, C5 PK6, C6 PK5, C7 PG12, C8 PG10, C9 PJ14, C10 PD5, C11 PD3, C12 PD1, C13 PI3, C14 PI2, C15 PA11, D1 PC13, D2 PF0, D3 PI5, D4 PI7, D5 PI10, D6 PI6, D7 PK4, D8 PK3, D9 PG9, D10 PJ15, D11 PD4, D12 PD2, D13 PH15, D14 PI1, D15 PA10, E1 PC14, E2 PF1, E3 PI12, E4 PI9, E5 PDR_ON, E6 BOOT0, E7 VDD, E8 VDD, E9 VDDMMC, E10 VDD, E11 VCAP, E12 PH13, E13 PH14, E14 PI0, E15 PA9, F1 PC15, F2 VSS, F3 PI11, F4 VDD, F5 VDD, F6 VSS, F7 VSS, F8 VSS, F9 VSS, F10 VSS, F11 VDD, F12 PK1, F13 PK2, F14 PC9, F15 PA8, G1 PH0, G2 PF2, G3 PI13, G4 PI15, G5 VDD, G6 VSS, G10 VSS, G11 VDD33_USB, G12 PJ11, G13 PK0, G14 PC8, G15 PC7, H1 PH1, H2 PF3, H3 PI14, H4 PH4, H5 VDD, H6 VSS, H10 VSS, H11 VDD, H12 PJ8, H13 PJ10, H14 PG8, H15 PC6, J1 NRST, J2 PF4, J3 PH5, J4 PH3, J5 VDD, J6 VSS, J10 VSS, J11 VDD, J12 PJ7, J13 PJ9, J14 PG7, J15 PG6, K1 PF7, K2 PF6, K3 PF5, K4 PH2, K5 VDD, K6 VSS, K7 VSS, K8 VSS, K9 VSS, K10 VSS, K11 VDD, K12 PJ6, K13 PD15, K14 PB13, K15 PD10, L1 PF10, L2 PF9, L3 PF8, L4 PC3_C, L5 VSS, L6 VSS, L7 VDD, L8 VDD, L9 VDD, L10 VDD, L11 VCAP, L12 PD14, L13 PB12, L14 PD9, L15 PD8, M1 VSSA, M2 PC0, M3 PC1, M4 PC2_C, M5 PB2, M6 PF12, M7 PG1, M8 PF15, M9 PJ4, M10 PD12, M11 PD13, M12 PG3, M13 PG2, M14 PJ5, M15 PH12, N1 VREF-, N2 PA1, N3 PA0, N4 PA4, N5 PC4, N6 PF13, N7 PG0, N8 PJ3, N9 PE8, N10 PD11, N11 PG5, N12 PG4, N13 PH7, N14 PH9, N15 PH11, P1 VREF+, P2 PA2, P3 PA6, P4 PA5, P5 PC5, P6 PF14, P7 PJ2, P8 PF11, P9 PE9, P10 PE11, P11 PE14, P12 PB10, P13 PH6, P14 PH8, P15 PH10, R1 VDDA, R2 PA3, R3 PA7, R4 PB1, R5 PB0, R6 PJ0, R7 PJ1, R8 PE7, R9 PE10, R10 PE12, R11 PE15, R12 PE13, R13 PB11, R14 PB14, R15 PB15

## STM32H7A3QIYxQ
designator *  value STM32H7A3QIYxQ  Reference: U
STMicroelectronics Arm Cortex-M7 MCU, 2048KB flash, 1184KB RAM, 280 MHz, 1.62-3.6V, 87 GPIO, WLCSP132; ki_keywords: Arm Cortex-M7 STM32H7 STM32H7A3/7B3; ki_fp_filters: ST*WLCSP*4.57x4.37mm*Layout12x11*P0.35mm*; Footprint: Package_CSP:ST_WLCSP-132_4.57x4.37mm_Layout12x11_P0.35mm; Datasheet: https://www.st.com/resource/en/datasheet/stm32h7a3qi.pdf; Description_: STMicroelectronics Arm Cortex-M7 MCU, 2048KB flash, 1184KB RAM, 280 MHz, 1.62-3.6V, 87 GPIO, WLCSP132
pins: A1 VSS, A2 VDD, A3 PC10, A4 PD3, A5 VSS, A6 PG10, A7 VDD, A8 PB3, A9 BOOT0, A10 VCAP, A11 VDDLDO, A12 VDD, B1 VDDLDO, B2 VSS, B3 PC12, B4 PD4, B5 VDDMMC, B6 PG11, B7 VSS, B8 VDDMMC, B9 PB8, B10 VSS, B11 VDD, B12 PC14, C1 PA12, C2 VCAP, C3 PA15, C4 PD0, C5 PD5, C6 PG12, C7 PG14, C8 PB6, C9 PE1, C10 PE6, C11 PC15, C12 VSS, D1 PA11, D2 PA10, D3 PA13, D4 PC11, D5 PD2, D6 PG9, D7 PG13, D8 PB7, D9 PDR_ON, D10 PE5, D11 VBAT, D12 VSSSMPS, E1 PC7, E2 PC9, E3 PA8, E4 PA14, E5 PD1, E6 PD7, E7 PB4, E8 PB9, E9 PE3, E10 PC13, E11 VFBSMPS, E12 VLXSMPS, F1 VDD33_USB, F2 VDD50_USB, F3 PC6, F4 PA9, F5 PB10, F6 PD6, F7 PB5, F8 PE0, F9 PE4, F10 NRST, F11 VSS, F12 VDDSMPS, G1 VDD, G2 VSS, G3 PD12, G4 PD11, G5 PE15, G6 PE10, G7 PA6, G8 PA1, G9 PC3, G10 PC0, G11 PH0, G12 VDD, H1 PD15, H2 PD13, H3 PD8, H4 PB15, H5 PE14, H6 PE8, H7 PC4, H8 PA2, H9 VSS, H10 VDD, H11 PC1, H12 PH1, J1 PD14, J2 PD9, J3 PB14, J4 PB11, J5 PE11, J6 PE9, J7 PB1, J8 PC5, J9 PA3, J10 VDDA, J11 VREF+, J12 PC2, K1 PD10, K2 PB13, K3 VDDLDO, K4 VSS, K5 PE12, K6 VSS, K7 PF14, K8 PB0, K9 PA7, K10 PA4, K11 PA0, K12 VSSA, L1 VDD, L2 PB12, L3 VDD, L4 VCAP, L5 PE13, L6 VDD, L7 PE7, L8 PB2, L9 VSS, L10 VDD, L11 PA5, L12 VSS

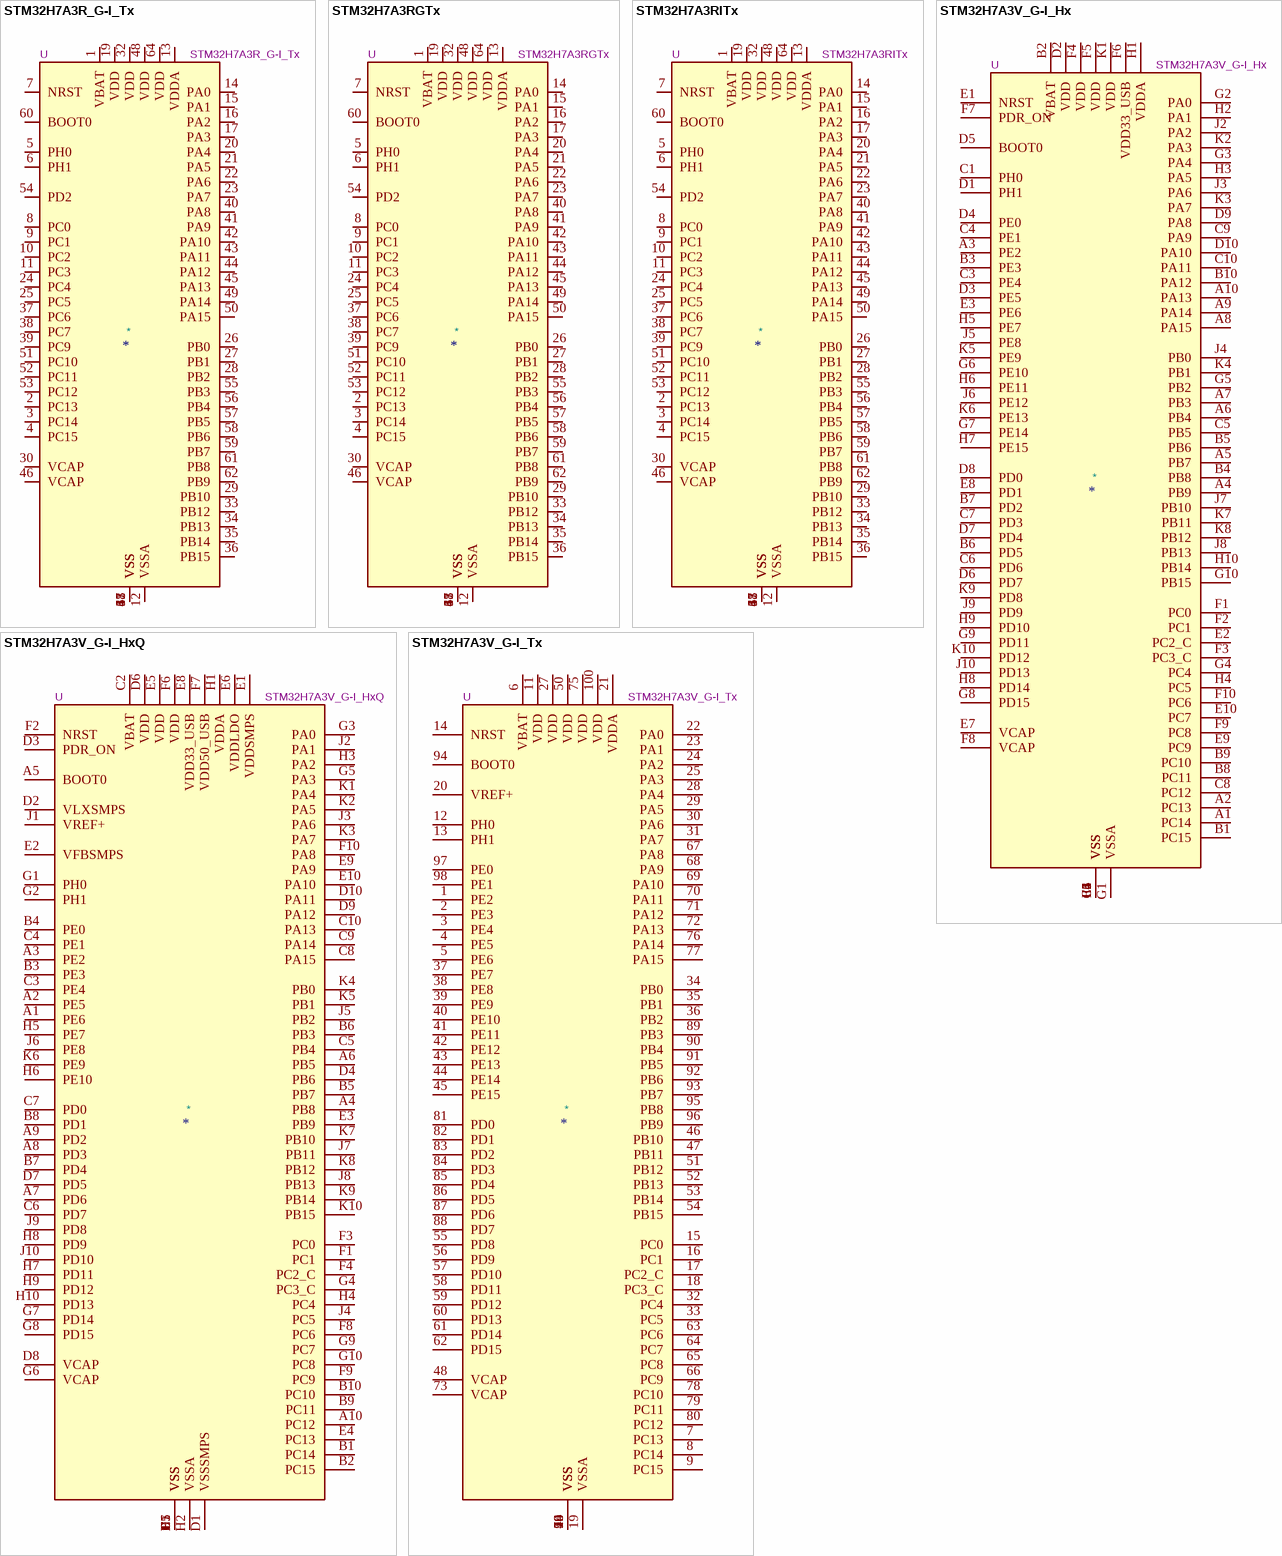
[diagram p10: symbols STM32H7A3R_G-I_Tx to STM32H7A3V_G-I_Tx]